# Altium integrated library texas.IntLib: 210 symbols (part 1 of 3)
Pins are listed as number, name and electrical type; pins without a type are passive.

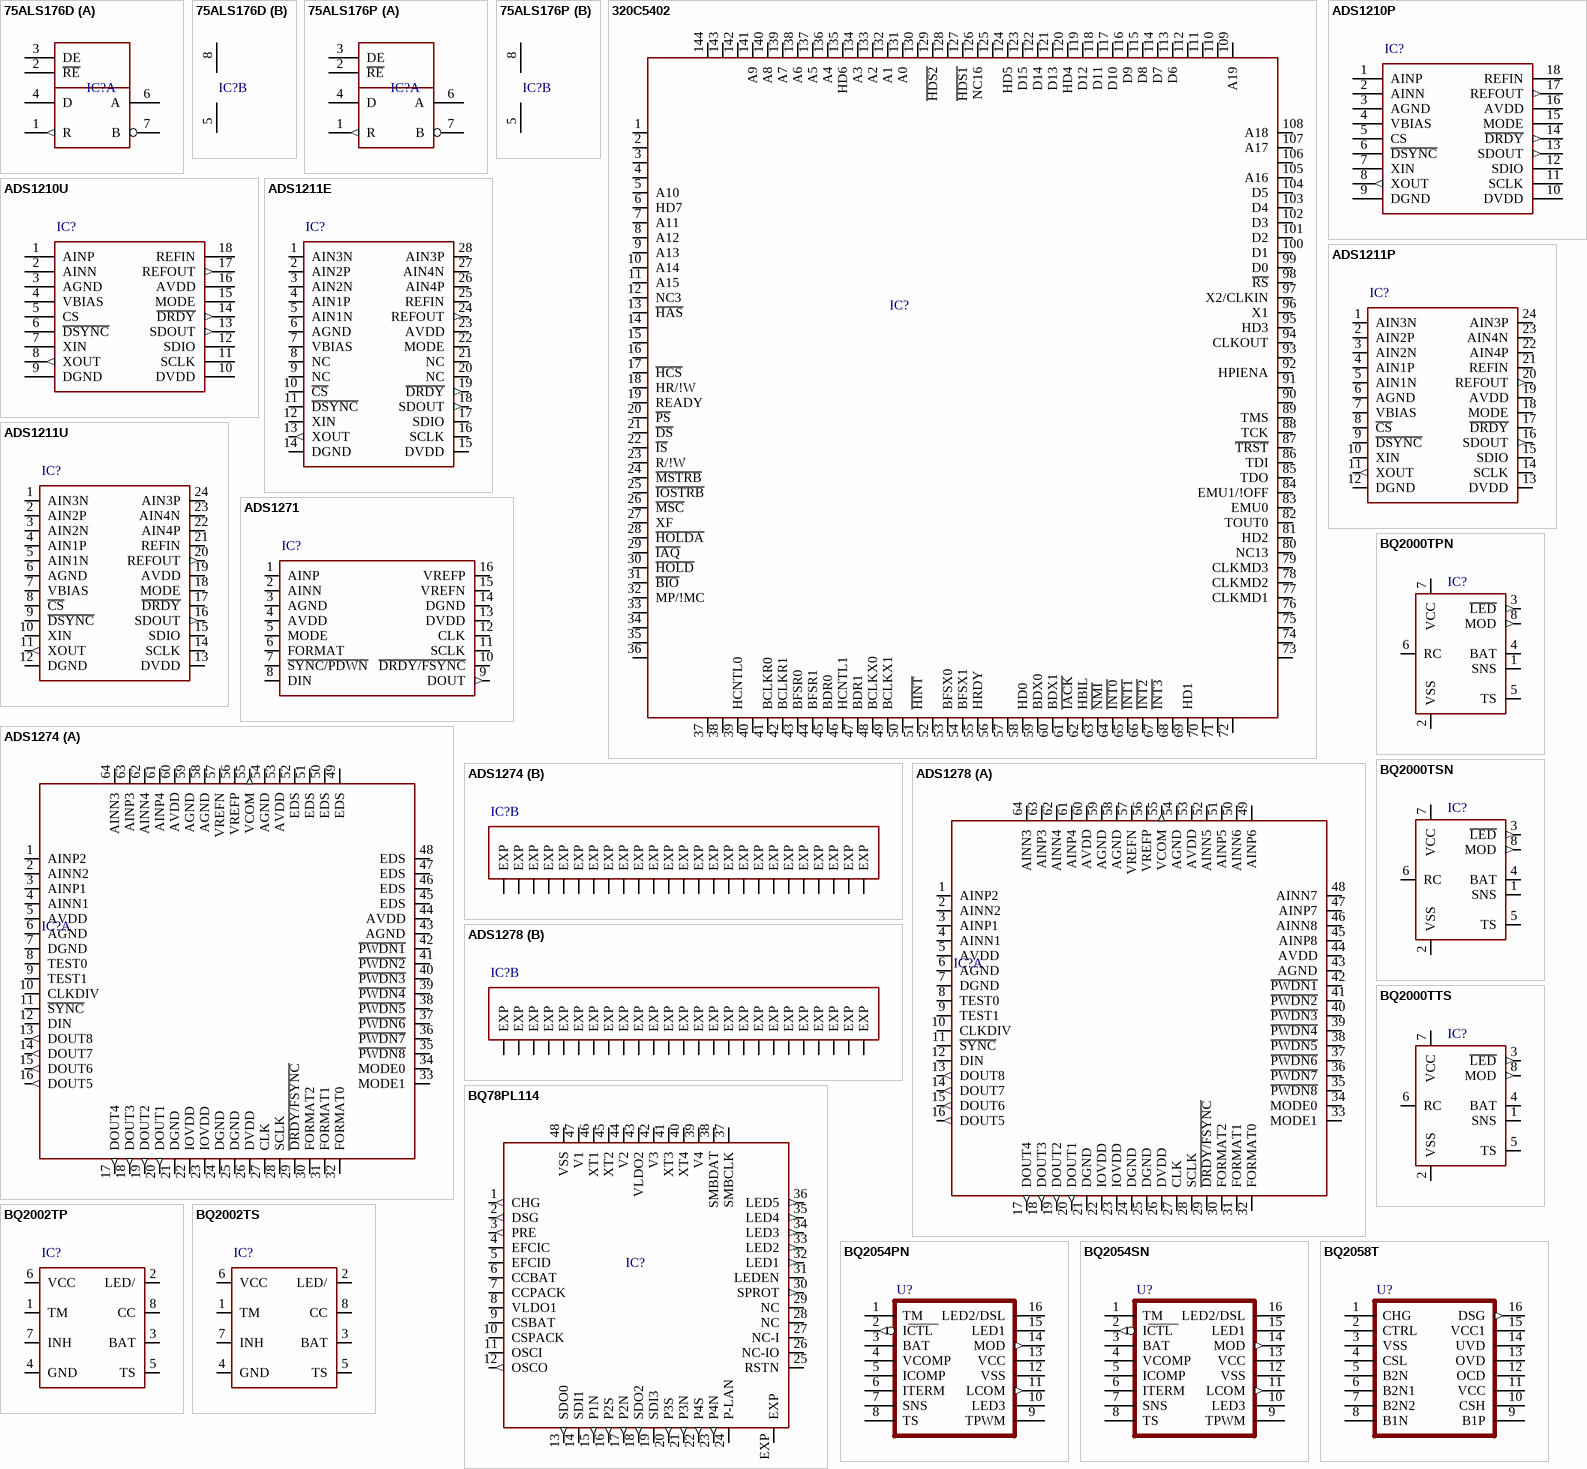
[diagram p0: symbols 75ALS176D to BQ2058T]

## 75ALS176D
designator IC?, comment <b>DIFFERENTIAL BUS TRANSCEIVERS</b><p> / TIA/EIA-422-B,  TIA/EIA-422-B + TIA/EIA-422-B TIA/EIA-422-B<br> / Operate at Data Rates up to 35 Mbaud<br> / Source: http://focus.ti.com/lit/ds/symlink/sn65als176.pdf  (value not drawn)
Vendor: TEXAS INSTRUMENTS
footprint SO-08
part A pins: 1 R (out), 2 ~{RE}, 3 DE, 4 D, 6 A, 7 B
part B pins: 5 GND (power), 8 VCC (power)

## 75ALS176P
designator IC?, comment <b>DIFFERENTIAL BUS TRANSCEIVERS</b><p> / TIA/EIA-422-B,  TIA/EIA-422-B + TIA/EIA-422-B TIA/EIA-422-B<br> / Operate at Data Rates up to 35 Mbaud<br> / Source: http://focus.ti.com/lit/ds/symlink/sn65als176.pdf  (value not drawn)
Part Number: SN75ALS176P; Vendor: TEXAS INSTRUMENTS
footprint DIL08
part A pins: 1 R (out), 2 ~{RE}, 3 DE, 4 D, 6 A, 7 B
part B pins: 5 GND (power), 8 VCC (power)

## 320C5402
designator IC?, comment <b>DSP DEVICE</b>  (value not drawn)
Vendor: TEXAS INSTRUMENTS
footprint PQFP144
pins: 1 NC1, 2 NC2, 3 VSS (power), 4 DVDD (power), 5 A10, 6 HD7, 7 A11, 8 A12, 9 A13, 10 A14, 11 A15, 12 NC3, 13 ~{HAS}, 14 VSS (power), 15 NC4, 16 CVDD (power), 17 ~{HCS}, 18 HR/!W, 19 READY, 20 ~{PS}, 21 ~{DS}, 22 ~{IS}, 23 R/!W, 24 ~{MSTRB}, 25 ~{IOSTRB}, 26 ~{MSC}, 27 XF, 28 ~{HOLDA}, 29 ~{IAQ}, 30 ~{HOLD}, 31 ~{BIO}, 32 MP/!MC, 33 DVDD (power), 34 VSS (power), 35 NC5, 36 NC6, 37 NC7, 38 NC8, 39 HCNTL0, 40 VSS (power), 41 BCLKR0, 42 BCLKR1, 43 BFSR0, 44 BFSR1, 45 BDR0, 46 HCNTL1, 47 BDR1, 48 BCLKX0, 49 BCLKX1, 50 VSS (power), 51 ~{HINT}, 52 CVDD (power), 53 BFSX0, 54 BFSX1, 55 HRDY, 56 DVDD (power), 57 VSS (power), 58 HD0, 59 BDX0, 60 BDX1, 61 ~{IACK}, 62 HBIL, 63 ~{NMI}, 64 ~{INT0}, 65 ~{INT1}, 66 ~{INT2}, 67 ~{INT3}, 68 CVDD (power), 69 HD1, 70 VSS (power), 71 NC9, 72 NC10, 73 NC11, 74 NC12, 75 DVDD (power), 76 VSS (power), 77 CLKMD1, 78 CLKMD2, 79 CLKMD3, 80 NC13, 81 HD2, 82 TOUT0, 83 EMU0, 84 EMU1/!OFF, 85 TDO, 86 TDI, 87 ~{TRST}, 88 TCK, 89 TMS, 90 NC14, 91 CVDD (power), 92 HPIENA, 93 VSS (power), 94 CLKOUT, 95 HD3, 96 X1, 97 X2/CLKIN, 98 ~{RS}, 99 D0, 100 D1, 101 D2, 102 D3, 103 D4, 104 D5, 105 A16, 106 VSS (power), 107 A17, 108 A18, 109 A19, 110 NC15, 111 VSS (power), 112 DVDD (power), 113 D6, 114 D7, 115 D8, 116 D9, 117 D10, 118 D11, 119 D12, 120 HD4, 121 D13, 122 D14, 123 D15, 124 HD5, 125 CVDD (power), 126 NC16, 127 ~{HDS1}, 128 VSS (power), 129 ~{HDS2}, 130 DVDD (power), 131 A0, 132 A1, 133 A2, 134 A3, 135 HD6, 136 A4, 137 A5, 138 A6, 139 A7, 140 A8, 141 A9, 142 CVDD (power), 143 NC17, 144 NC18

## ADS1210P
designator IC?, comment <b>24-Bit ANALOG-TO-DIGITAL CONVERTER</b><p> / Source: http://focus.ti.com/lit/ds/symlink/ads1210.pdf  (value not drawn)
Part Number: ADS1210P; Vendor: TEXAS INSTRUMENTS
footprint DIL18
pins: 1 AINP, 2 AINN, 3 AGND (power), 4 VBIAS, 5 CS, 6 ~{DSYNC}, 7 XIN, 8 XOUT (out), 9 DGND (power), 10 DVDD (power), 11 SCLK, 12 SDIO, 13 SDOUT (out), 14 ~{DRDY} (out), 15 MODE, 16 AVDD (power), 17 REFOUT (out), 18 REFIN

## ADS1210U
designator IC?, comment <b>24-Bit ANALOG-TO-DIGITAL CONVERTER</b><p> / Source: http://focus.ti.com/lit/ds/symlink/ads1210.pdf  (value not drawn)
Part Number: ADS1210U; Vendor: TEXAS INSTRUMENTS
footprint SO-18DW
pins: 1 AINP, 2 AINN, 3 AGND (power), 4 VBIAS, 5 CS, 6 ~{DSYNC}, 7 XIN, 8 XOUT (out), 9 DGND (power), 10 DVDD (power), 11 SCLK, 12 SDIO, 13 SDOUT (out), 14 ~{DRDY} (out), 15 MODE, 16 AVDD (power), 17 REFOUT (out), 18 REFIN

## ADS1211E
designator IC?, comment <b>24-Bit ANALOG-TO-DIGITAL CONVERTER</b><p> / Source: http://focus.ti.com/lit/ds/symlink/ads1210.pdf  (value not drawn)
Part Number: ADS1211E; Vendor: TEXAS INSTRUMENTS
footprint DB_R-PDSO-G28
pins: 1 AIN3N, 2 AIN2P, 3 AIN2N, 4 AIN1P, 5 AIN1N, 6 AGND (power), 7 VBIAS, 8 NC, 9 NC, 10 ~{CS}, 11 ~{DSYNC}, 12 XIN, 13 XOUT (out), 14 DGND (power), 15 DVDD (power), 16 SCLK, 17 SDIO, 18 SDOUT (out), 19 ~{DRDY} (out), 20 NC, 21 NC, 22 MODE, 23 AVDD (power), 24 REFOUT (out), 25 REFIN, 26 AIN4P, 27 AIN4N, 28 AIN3P

## ADS1211P
designator IC?, comment <b>24-Bit ANALOG-TO-DIGITAL CONVERTER</b><p> / Source: http://focus.ti.com/lit/ds/symlink/ads1210.pdf  (value not drawn)
Part Number: ADS1211P; Vendor: TEXAS INSTRUMENTS
footprint PDIP-T24
pins: 1 AIN3N, 2 AIN2P, 3 AIN2N, 4 AIN1P, 5 AIN1N, 6 AGND (power), 7 VBIAS, 8 ~{CS}, 9 ~{DSYNC}, 10 XIN, 11 XOUT (out), 12 DGND (power), 13 DVDD (power), 14 SCLK, 15 SDIO, 16 SDOUT (out), 17 ~{DRDY}, 18 MODE, 19 AVDD (power), 20 REFOUT (out), 21 REFIN, 22 AIN4P, 23 AIN4N, 24 AIN3P

## ADS1211U
designator IC?, comment <b>24-Bit ANALOG-TO-DIGITAL CONVERTER</b><p> / Source: http://focus.ti.com/lit/ds/symlink/ads1210.pdf  (value not drawn)
Part Number: ADS1211U; Vendor: TEXAS INSTRUMENTS
footprint PW_R-PDSO-G24
pins: 1 AIN3N, 2 AIN2P, 3 AIN2N, 4 AIN1P, 5 AIN1N, 6 AGND (power), 7 VBIAS, 8 ~{CS}, 9 ~{DSYNC}, 10 XIN, 11 XOUT (out), 12 DGND (power), 13 DVDD (power), 14 SCLK, 15 SDIO, 16 SDOUT (out), 17 ~{DRDY}, 18 MODE, 19 AVDD (power), 20 REFOUT (out), 21 REFIN, 22 AIN4P, 23 AIN4N, 24 AIN3P

## ADS1271
designator IC?, comment <b>24-Bit Wide Bandwidth Analaog-to-Digial Converter</b><p> / Source: http://focus.ti.com/lit/ds/symlink/ads1271.pdf  (value not drawn)
Part Number: ADS1271IPWR; Vendor: TEXAS INSTRUMENTS
footprint TSSOP16
pins: 1 AINP, 2 AINN, 3 AGND (power), 4 AVDD (power), 5 MODE, 6 FORMAT, 7 ~{SYNC/PDWN}, 8 DIN, 9 DOUT (out), 10 ~{DRDY/FSYNC}, 11 SCLK, 12 CLK, 13 DVDD, 14 DGND, 15 VREFN, 16 VREFP

## ADS1274
designator IC?, comment <b>Quad/Octal, Simultaneous Sampling, 24-Bit Analog-to-Digital Converters</b> ADS1274 / ADS1278 <p> / Source: http://focus.ti.com/lit/ds/symlink/ads1274.pdf  (value not drawn)
Part Number: ADS1274IPAPT; Vendor: TEXAS INSTRUMENTS
footprint HTQFP-64-PAP
part A pins: 1 AINP2, 2 AINN2, 3 AINP1, 4 AINN1, 5 AVDD (power), 6 AGND (power), 7 DGND (power), 8 TEST0, 9 TEST1, 10 CLKDIV, 11 ~{SYNC}, 12 DIN, 13 DOUT8 (out), 14 DOUT7 (out), 15 DOUT6 (out), 16 DOUT5 (out), 17 DOUT4 (out), 18 DOUT3 (out), 19 DOUT2 (out), 20 DOUT1 (out), 21 DGND (power), 22 IOVDD (power), 23 IOVDD (power), 24 DGND (power), 25 DGND (power), 26 DVDD (power), 27 CLK, 28 SCLK, 29 ~{DRDY/FSYNC}, 30 FORMAT2, 31 FORMAT1, 32 FORMAT0, 33 MODE1, 34 MODE0, 35 ~{PWDN8}, 36 ~{PWDN7}, 37 ~{PWDN6}, 38 ~{PWDN5}, 39 ~{PWDN4}, 40 ~{PWDN3}, 41 ~{PWDN2}, 42 ~{PWDN1}, 43 AGND (power), 44 AVDD (power), 45 EDS, 46 EDS, 47 EDS, 48 EDS, 49 EDS, 50 EDS, 51 EDS, 52 EDS, 53 AVDD (power), 54 AGND (power), 55 VCOM (out), 56 VREFP, 57 VREFN, 58 AGND (power), 59 AGND (power), 60 AVDD (power), 61 AINP4, 62 AINN4, 63 AINP3, 64 AINN3
part B pins: EXP1 EXP, EXP2 EXP, EXP3 EXP, EXP4 EXP, EXP5 EXP, EXP6 EXP, EXP7 EXP, EXP8 EXP, EXP9 EXP, EXP10 EXP, EXP11 EXP, EXP12 EXP, EXP13 EXP, EXP14 EXP, EXP15 EXP, EXP16 EXP, EXP17 EXP, EXP18 EXP, EXP19 EXP, EXP20 EXP, EXP21 EXP, EXP22 EXP, EXP23 EXP, EXP24 EXP, EXP25 EXP

## ADS1278
designator IC?, comment <b>Quad/Octal, Simultaneous Sampling, 24-Bit Analog-to-Digital Converters</b> ADS1274 / ADS1278 <p> / Auto generated by <i>make-symbol-device-package-bsdl.ulp Rev. 29</i><br> / Source: http://focus.ti.com/lit/ds/symlink/ads1274.pdf  (value not drawn)
Part Number: ADS1278IPAPT; Vendor: TEXAS INSTRUMENTS
footprint HTQFP-64-PAP
part A pins: 1 AINP2, 2 AINN2, 3 AINP1, 4 AINN1, 5 AVDD (power), 6 AGND (power), 7 DGND (power), 8 TEST0, 9 TEST1, 10 CLKDIV, 11 ~{SYNC}, 12 DIN, 13 DOUT8 (out), 14 DOUT7 (out), 15 DOUT6 (out), 16 DOUT5 (out), 17 DOUT4 (out), 18 DOUT3 (out), 19 DOUT2 (out), 20 DOUT1 (out), 21 DGND (power), 22 IOVDD (power), 23 IOVDD (power), 24 DGND (power), 25 DGND (power), 26 DVDD (power), 27 CLK, 28 SCLK, 29 ~{DRDY/FSYNC}, 30 FORMAT2, 31 FORMAT1, 32 FORMAT0, 33 MODE1, 34 MODE0, 35 ~{PWDN8}, 36 ~{PWDN7}, 37 ~{PWDN6}, 38 ~{PWDN5}, 39 ~{PWDN4}, 40 ~{PWDN3}, 41 ~{PWDN2}, 42 ~{PWDN1}, 43 AGND (power), 44 AVDD (power), 45 AINP8, 46 AINN8, 47 AINP7, 48 AINN7, 49 AINP6, 50 AINN6, 51 AINP5, 52 AINN5, 53 AVDD (power), 54 AGND (power), 55 VCOM (out), 56 VREFP, 57 VREFN, 58 AGND (power), 59 AGND (power), 60 AVDD (power), 61 AINP4, 62 AINN4, 63 AINP3, 64 AINN3
part B pins: EXP1 EXP, EXP2 EXP, EXP3 EXP, EXP4 EXP, EXP5 EXP, EXP6 EXP, EXP7 EXP, EXP8 EXP, EXP9 EXP, EXP10 EXP, EXP11 EXP, EXP12 EXP, EXP13 EXP, EXP14 EXP, EXP15 EXP, EXP16 EXP, EXP17 EXP, EXP18 EXP, EXP19 EXP, EXP20 EXP, EXP21 EXP, EXP22 EXP, EXP23 EXP, EXP24 EXP, EXP25 EXP

## BQ78PL114
designator IC?, comment <b>PowerLAN (TM) Master Gateway Battery Management Controller With PowerPump(TM) Cell Balancing Technology</b><p> / Auto generated by <i>make-symbol-device-package-bsdl.ulp Rev. 35</i><br> / Source: <a href="http://focus.ti.com/lit/ds/symlink/bq78pl114.pdf"> Datasheet </a>  (value not drawn)
Part Number: BQ78PL114RGZR; Vendor: TEXAS INSTRUMENTS
footprint P-QFP48-7X7MM
pins: 1 CHG (out), 2 DSG (out), 3 PRE (out), 4 EFCIC, 5 EFCID, 6 CCBAT, 7 CCPACK, 8 VLDO1 (power), 9 CSBAT, 10 CSPACK, 11 OSCI, 12 OSCO (out), 13 SDO0 (out), 14 SDI1, 15 P1N (out), 16 P2S (out), 17 P2N (out), 18 SDO2 (out), 19 SDI3, 20 P3S (out), 21 P3N (out), 22 P4S (out), 23 P4N (out), 24 P-LAN, 25 RSTN, 26 NC-IO, 27 NC-I, 28 NC, 29 NC, 30 SPROT (out), 31 LEDEN, 32 LED1 (out), 33 LED2 (out), 34 LED3 (out), 35 LED4 (out), 36 LED5 (out), 37 SMBCLK, 38 SMBDAT, 39 V4, 40 XT4, 41 XT3, 42 V3, 43 VLDO2 (power), 44 V2, 45 XT2, 46 XT1, 47 V1, 48 VSS, EXP

## BQ2000TPN
designator IC?, comment <b>CHARGE MANAGEMENT IC</b>  (value not drawn)
Part Number: BQ2000TPN-B5; Vendor: TEXAS INSTRUMENTS
footprint DIL08
pins: 1 SNS, 2 VSS (power), 3 ~{LED} (out), 4 BAT, 5 TS, 6 RC, 7 VCC, 8 MOD (out)

## BQ2000TSN
designator IC?, comment <b>CHARGE MANAGEMENT IC</b>  (value not drawn)
Part Number: BQ2000TSN-B5; Vendor: TEXAS INSTRUMENTS
footprint SO-08
pins: 1 SNS, 2 VSS (power), 3 ~{LED} (out), 4 BAT, 5 TS, 6 RC, 7 VCC, 8 MOD (out)

## BQ2000TTS
designator IC?, comment <b>CHARGE MANAGEMENT IC</b>  (value not drawn)
Vendor: TEXAS INSTRUMENTS
footprint TSSOP8
pins: 1 SNS, 2 VSS (power), 3 ~{LED} (out), 4 BAT, 5 TS, 6 RC, 7 VCC, 8 MOD (out)

## BQ2002TP
designator IC?, comment <b>CHARGE MANAGEMENT IC</b>  (value not drawn)
Part Number: BQ2002TPN; Vendor: TEXAS INSTRUMENTS
footprint DIL08
pins: 1 TM, 2 LED/ (oc), 3 BAT, 4 GND (power), 5 TS, 6 VCC (power), 7 INH, 8 CC (oc)

## BQ2002TS
designator IC?, comment <b>CHARGE MANAGEMENT IC</b>  (value not drawn)
Part Number: BQ2002TSN; Vendor: TEXAS INSTRUMENTS
footprint SO-08
pins: 1 TM, 2 LED/ (oc), 3 BAT, 4 GND (power), 5 TS, 6 VCC (power), 7 INH, 8 CC (oc)

## BQ2054PN
designator U?, comment <b>CHARGE MANAGEMENT IC</b>  (value not drawn)
Part Number: BQ2054PN; Vendor: TEXAS INSTRUMENTS
footprint DIL16
pins: 1 TM, 2 ICTL (out), 3 BAT, 4 VCOMP, 5 ICOMP, 6 ITERM, 7 SNS, 8 TS, 9 TPWM, 10 LED3 (hiz), 11 LCOM (out), 12 VSS (power), 13 VCC (power), 14 MOD (out), 15 LED1 (hiz), 16 LED2/DSL (hiz)

## BQ2054SN
designator U?, comment <b>CHARGE MANAGEMENT IC</b>  (value not drawn)
Part Number: BQ2054SN; Vendor: TEXAS INSTRUMENTS
footprint SO-16
pins: 1 TM, 2 ICTL (out), 3 BAT, 4 VCOMP, 5 ICOMP, 6 ITERM, 7 SNS, 8 TS, 9 TPWM, 10 LED3 (hiz), 11 LCOM (out), 12 VSS (power), 13 VCC (power), 14 MOD (out), 15 LED1 (hiz), 16 LED2/DSL (hiz)

## BQ2058T
designator U?, comment <b>CHARGE MANAGEMENT IC</b>  (value not drawn)
Vendor: TEXAS INSTRUMENTS
footprint SO-16
pins: 1 CHG (hiz), 2 CTRL, 3 VSS (power), 4 CSL, 5 B2N, 6 B2N1, 7 B2N2, 8 B1N, 9 B1P, 10 CSH, 11 VCC (power), 12 OCD, 13 OVD, 14 UVD, 15 VCC1 (power), 16 DSG (out)

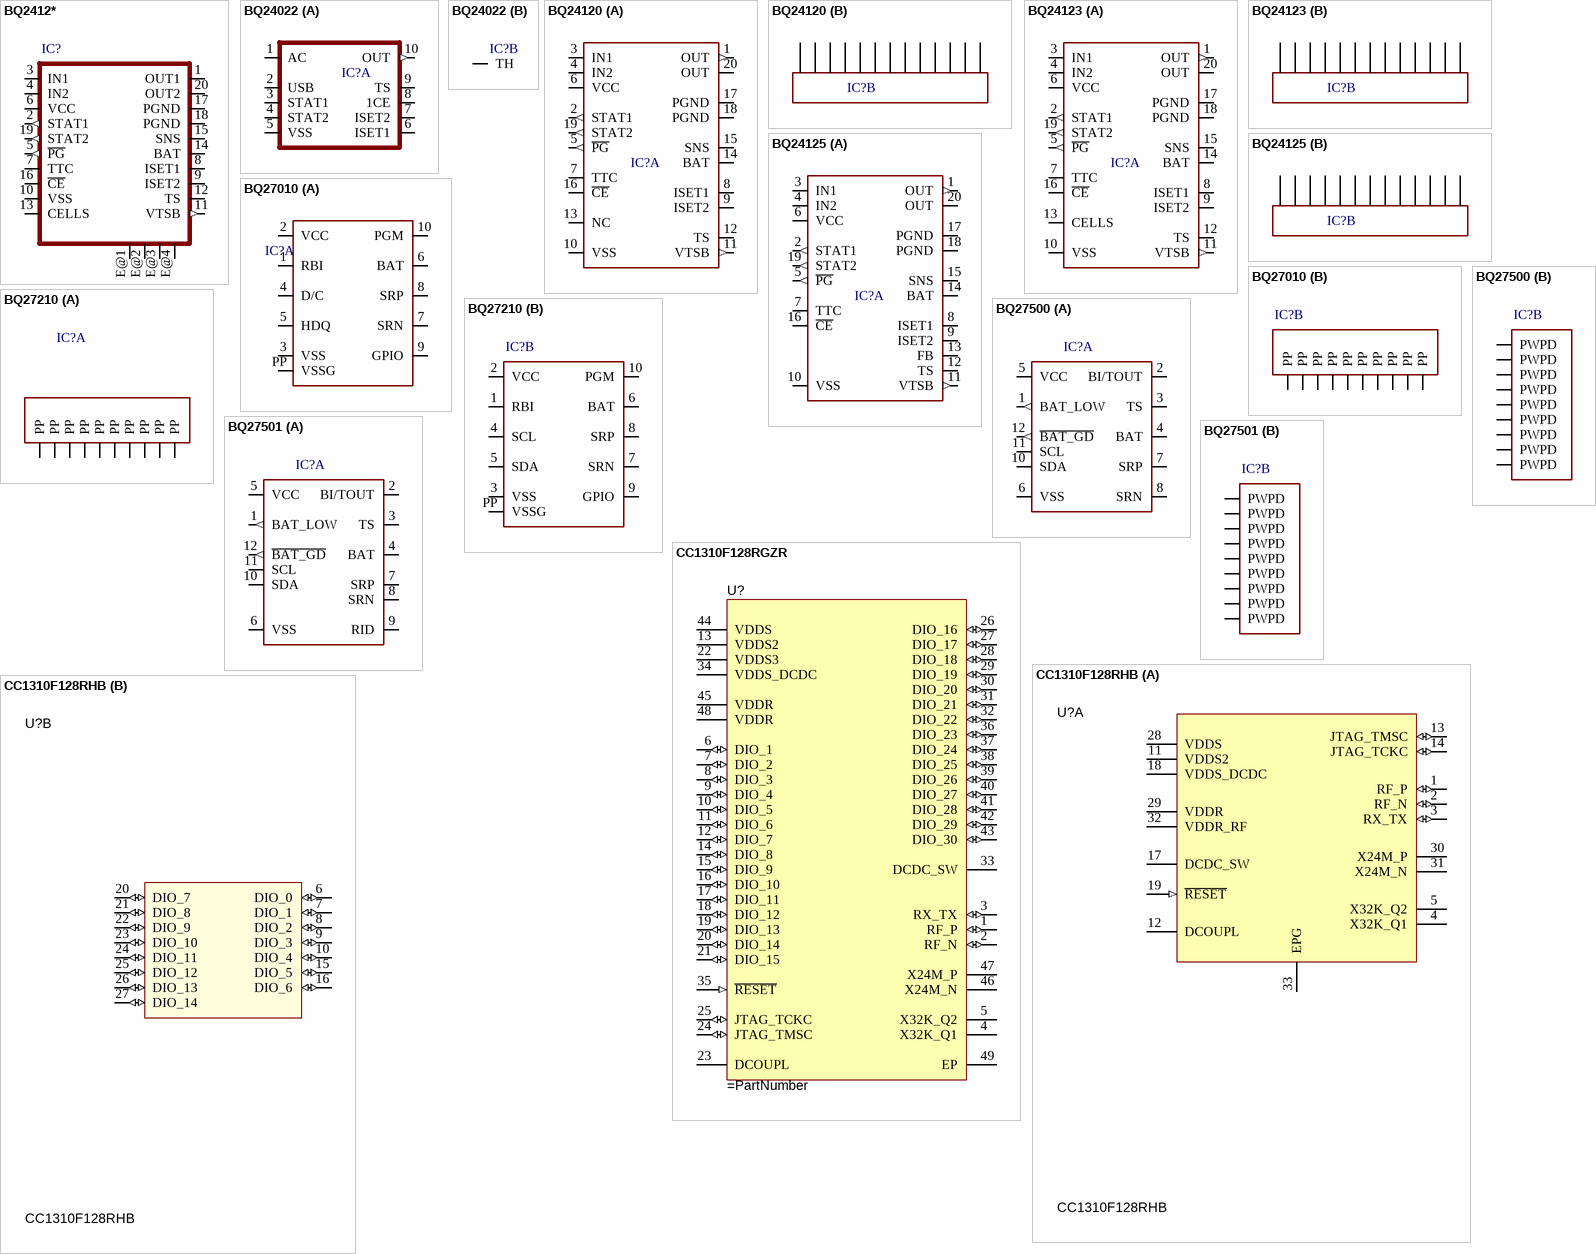
[diagram p1: symbols BQ2412* to CC1310F128RHB]

## BQ2412*
designator IC?, comment <b>SINGLE-CHIP SWITCHMODE, LI-ION AND LI-POLYMER CHARGE-MANAGEMENT</b><p> / WITH ENHANCED EMI PERFORMANCE(bqSWITCHER TM)</b><p> / Source: http://focus.ti.com/lit/ds/symlink/bq24120.pdf  (value not drawn)
Part Number: BQ24123RHLT; Vendor: TEXAS INSTRUMENTS
footprint R-PQFP-N20
pins: 1 OUT1, 2 STAT1 (out), 3 IN1, 4 IN2, 5 ~{PG} (out), 6 VCC, 7 TTC, 8 ISET1, 9 ISET2, 10 VSS, 11 VTSB (out), 12 TS, 13 CELLS, 14 BAT, 15 SNS, 16 ~{CE}, 17 PGND, 18 PGND, 19 STAT2 (out), 20 OUT2, E@1 EXP, E@2 EXP, E@3 EXP, E@4 EXP

## BQ24022
designator IC?, comment <b>SINGLE-CHIP, LI-ION AND LI-POL CHARGER IC</b> WITH AUTONOMOUS USB-PORT AND AC-ADAPTER SUPPLY MANAGEMENT (bqTINY™-II)<p> / Source: bq24022.pdf (www.ti.com)  (value not drawn)
Vendor: TEXAS INSTRUMENTS
footprint DRC-S-PVSON-N10
part A pins: 1 AC, 2 USB, 3 STAT1, 4 STAT2, 5 VSS (power), 6 ISET1, 7 ISET2, 8 1CE, 9 TS, 10 OUT (out)
part B pins: TH

## BQ24120
designator IC?, comment <b>SINGLE-CHIP SWITCHMODE, LI-ION AND LI-POLYMER CHARGE-MANAGEMENT IC</b><p> / WITH ENHANCED EMI PERFORMANCE(bqSWITCHER)<br> / Source: www.ti.com .. TI-bq24125.pdf  (value not drawn)
Part Number: BQ24120RHLTG4; Vendor: TEXAS INSTRUMENTS
footprint QFN20_3,5X4,5
part A pins: 1 OUT (out), 2 STAT1 (out), 3 IN1, 4 IN2, 5 ~{PG} (out), 6 VCC, 7 TTC, 8 ISET1, 9 ISET2, 10 VSS (power), 11 VTSB (out), 12 TS, 13 NC, 14 BAT, 15 SNS, 16 ~{CE}, 17 PGND, 18 PGND, 19 STAT2 (out), 20 OUT
part B pins: EXP 7, EXP@1 1, EXP@2 2, EXP@3 3, EXP@4 4, EXP@5 5, EXP@6 6, EXP@7 8, EXP@8 9, EXP@9 10, EXP@10 11, EXP@11 12, EXP@12 13

## BQ24123
designator IC?, comment <b>SINGLE-CHIP SWITCHMODE, LI-ION AND LI-POLYMER CHARGE-MANAGEMENT IC</b><p> / WITH ENHANCED EMI PERFORMANCE(bqSWITCHER)<br> / Source: www.ti.com .. TI-bq24125.pdf  (value not drawn)
Part Number: BQ24123RHLT; Vendor: TEXAS INSTRUMENTS
footprint QFN20_3,5X4,5
part A pins: 1 OUT (out), 2 STAT1 (out), 3 IN1, 4 IN2, 5 ~{PG} (out), 6 VCC, 7 TTC, 8 ISET1, 9 ISET2, 10 VSS (power), 11 VTSB (out), 12 TS, 13 CELLS, 14 BAT, 15 SNS, 16 ~{CE}, 17 PGND, 18 PGND, 19 STAT2 (out), 20 OUT
part B pins: EXP 7, EXP@1 1, EXP@2 2, EXP@3 3, EXP@4 4, EXP@5 5, EXP@6 6, EXP@7 8, EXP@8 9, EXP@9 10, EXP@10 11, EXP@11 12, EXP@12 13

## BQ24125
designator IC?, comment <b>SINGLE-CHIP SWITCHMODE, LI-ION AND LI-POLYMER CHARGE-MANAGEMENT IC</b><p> / WITH ENHANCED EMI PERFORMANCE(bqSWITCHER)<br> / Source: www.ti.com .. TI-bq24125.pdf  (value not drawn)
Part Number: BQ24125RHLR; Vendor: TEXAS INSTRUMENTS
footprint QFN20_3,5X4,5
part A pins: 1 OUT (out), 2 STAT1 (out), 3 IN1, 4 IN2, 5 ~{PG} (out), 6 VCC, 7 TTC, 8 ISET1, 9 ISET2, 10 VSS (power), 11 VTSB (out), 12 TS, 13 FB, 14 BAT, 15 SNS, 16 ~{CE}, 17 PGND, 18 PGND, 19 STAT2 (out), 20 OUT
part B pins: EXP 7, EXP@1 1, EXP@2 2, EXP@3 3, EXP@4 4, EXP@5 5, EXP@6 6, EXP@7 8, EXP@8 9, EXP@9 10, EXP@10 11, EXP@11 12, EXP@12 13

## BQ27010
designator IC?, comment <b>Li-Ion AND Li-Pol BATTERY GAS GAUGE IC FOR PORTABLE APPLICATIONS</b><p> / HDQ Communication (bqJUNIOR)<br> / Source: www.ti.com .. bq27010.pdf  (value not drawn)
Part Number: BQ27010DRKR; Vendor: TEXAS INSTRUMENTS
footprint DRK_S-PDSO-N10
part A pins: 1 RBI, 2 VCC (power), 3 VSS (power), 4 D/C, 5 HDQ, 6 BAT, 7 SRN, 8 SRP, 9 GPIO, 10 PGM, PP VSSG (power)
part B pins: PP@1 PP (power), PP@2 PP (power), PP@3 PP (power), PP@4 PP (power), PP@5 PP (power), PP@6 PP (power), PP@7 PP (power), PP@8 PP (power), PP@9 PP (power), PP@10 PP (power)

## BQ27210
designator IC?, comment <b>Li-Ion AND Li-Pol BATTERY GAS GAUGE IC FOR PORTABLE APPLICATIONS</b><p> / I2C  Communication (bqJUNIOR)<br> / Source: www.ti.com .. bq27010.pdf  (value not drawn)
Part Number: BQ27210DRKR; Vendor: TEXAS INSTRUMENTS
footprint DRK_S-PDSO-N10
part A pins: PP@1 PP (power), PP@2 PP (power), PP@3 PP (power), PP@4 PP (power), PP@5 PP (power), PP@6 PP (power), PP@7 PP (power), PP@8 PP (power), PP@9 PP (power), PP@10 PP (power)
part B pins: 1 RBI, 2 VCC, 3 VSS, 4 SCL, 5 SDA, 6 BAT, 7 SRN, 8 SRP, 9 GPIO, 10 PGM, PP VSSG

## BQ27500
designator IC?, comment <b>System-Side Impedance Track? Fuel Gauge</b><p> / Source: bq27500-v100.pdf  (value not drawn)
Part Number: BQ27500DRZR; Vendor: TEXAS INSTRUMENTS
footprint DRZ
part A pins: 1 BAT_LOW (out), 2 BI/TOUT, 3 TS, 4 BAT, 5 VCC (power), 6 VSS (power), 7 SRP, 8 SRN, 9 NC, 10 SDA, 11 SCL, 12 ~{BAT_GD} (out)
part B pins: EXP@1 PWPD (power), EXP@2 PWPD (power), EXP@3 PWPD (power), EXP@4 PWPD (power), EXP@5 PWPD (power), EXP@6 PWPD (power), EXP@7 PWPD (power), EXP@8 PWPD (power), EXP@9 PWPD (power)

## BQ27501
designator IC?, comment <b>System-Side Impedance Track? Fuel Gauge</b><p> / Source: bq27500-v100.pdf  (value not drawn)
Part Number: BQ27501DRZT; Vendor: TEXAS INSTRUMENTS
footprint DRZ
part A pins: 1 BAT_LOW (out), 2 BI/TOUT, 3 TS, 4 BAT, 5 VCC (power), 6 VSS (power), 7 SRP, 8 SRN, 9 RID, 10 SDA, 11 SCL, 12 ~{BAT_GD} (out)
part B pins: EXP@1 PWPD (power), EXP@2 PWPD (power), EXP@3 PWPD (power), EXP@4 PWPD (power), EXP@5 PWPD (power), EXP@6 PWPD (power), EXP@7 PWPD (power), EXP@8 PWPD (power), EXP@9 PWPD (power)

## CC1310F128RGZR
designator U?
Sub-1 GHz and 2.4 GHz Multi-standard RF IC Family, RGZ0048A; Part Number: CC1310F128RGZR; Value: Texas Instruments; Vendor: TEXAS INSTRUMENTS
footprint RGZ0048A
pins: 1 RF_P (io), 2 RF_N (io), 3 RX_TX (io), 4 X32K_Q1, 5 X32K_Q2, 6 DIO_1 (io), 7 DIO_2 (io), 8 DIO_3 (io), 9 DIO_4 (io), 10 DIO_5 (io), 11 DIO_6 (io), 12 DIO_7 (io), 13 VDDS2 (power), 14 DIO_8 (io), 15 DIO_9 (io), 16 DIO_10 (io), 17 DIO_11 (io), 18 DIO_12 (io), 19 DIO_13 (io), 20 DIO_14 (io), 21 DIO_15 (io), 22 VDDS3 (power), 23 DCOUPL (power), 24 JTAG_TMSC (io), 25 JTAG_TCKC (io), 26 DIO_16 (io), 27 DIO_17 (io), 28 DIO_18 (io), 29 DIO_19 (io), 30 DIO_20 (io), 31 DIO_21 (io), 32 DIO_22 (io), 33 DCDC_SW (power), 34 VDDS_DCDC (power), 35 ~{RESET} (in), 36 DIO_23 (io), 37 DIO_24 (io), 38 DIO_25 (io), 39 DIO_26 (io), 40 DIO_27 (io), 41 DIO_28 (io), 42 DIO_29 (io), 43 DIO_30 (io), 44 VDDS (power), 45 VDDR (power), 46 X24M_N, 47 X24M_P, 48 VDDR (power), 49 EP (power)

## CC1310F128RHB
designator U?
Sub-1 GHz and 2.4 GHz Multi-standard RF IC Family, RSM; Value: Texas Instruments; Part Number: CC1310F128RHB; Vendor: TEXAS INSTRUMENTS
footprint VQFN32-5x5 (QFN, 32-Leads, Body 5x5mm, Pitch 0.4mm, Thermal Pad 2.8x2.8mm, IPC Medium Density)
part A pins: 1 RF_P (io), 2 RF_N (io), 3 RX_TX (io), 4 X32K_Q1, 5 X32K_Q2, 11 VDDS2 (power), 12 DCOUPL (power), 13 JTAG_TMSC (io), 14 JTAG_TCKC (io), 17 DCDC_SW (power), 18 VDDS_DCDC (power), 19 ~{RESET} (in), 28 VDDS (power), 29 VDDR (power), 30 X24M_P, 31 X24M_N, 32 VDDR_RF (power), 33 EPG (power)
part B pins: 6 DIO_0 (io), 7 DIO_1 (io), 8 DIO_2 (io), 9 DIO_3 (io), 10 DIO_4 (io), 15 DIO_5 (io), 16 DIO_6 (io), 20 DIO_7 (io), 21 DIO_8 (io), 22 DIO_9 (io), 23 DIO_10 (io), 24 DIO_11 (io), 25 DIO_12 (io), 26 DIO_13 (io), 27 DIO_14 (io)

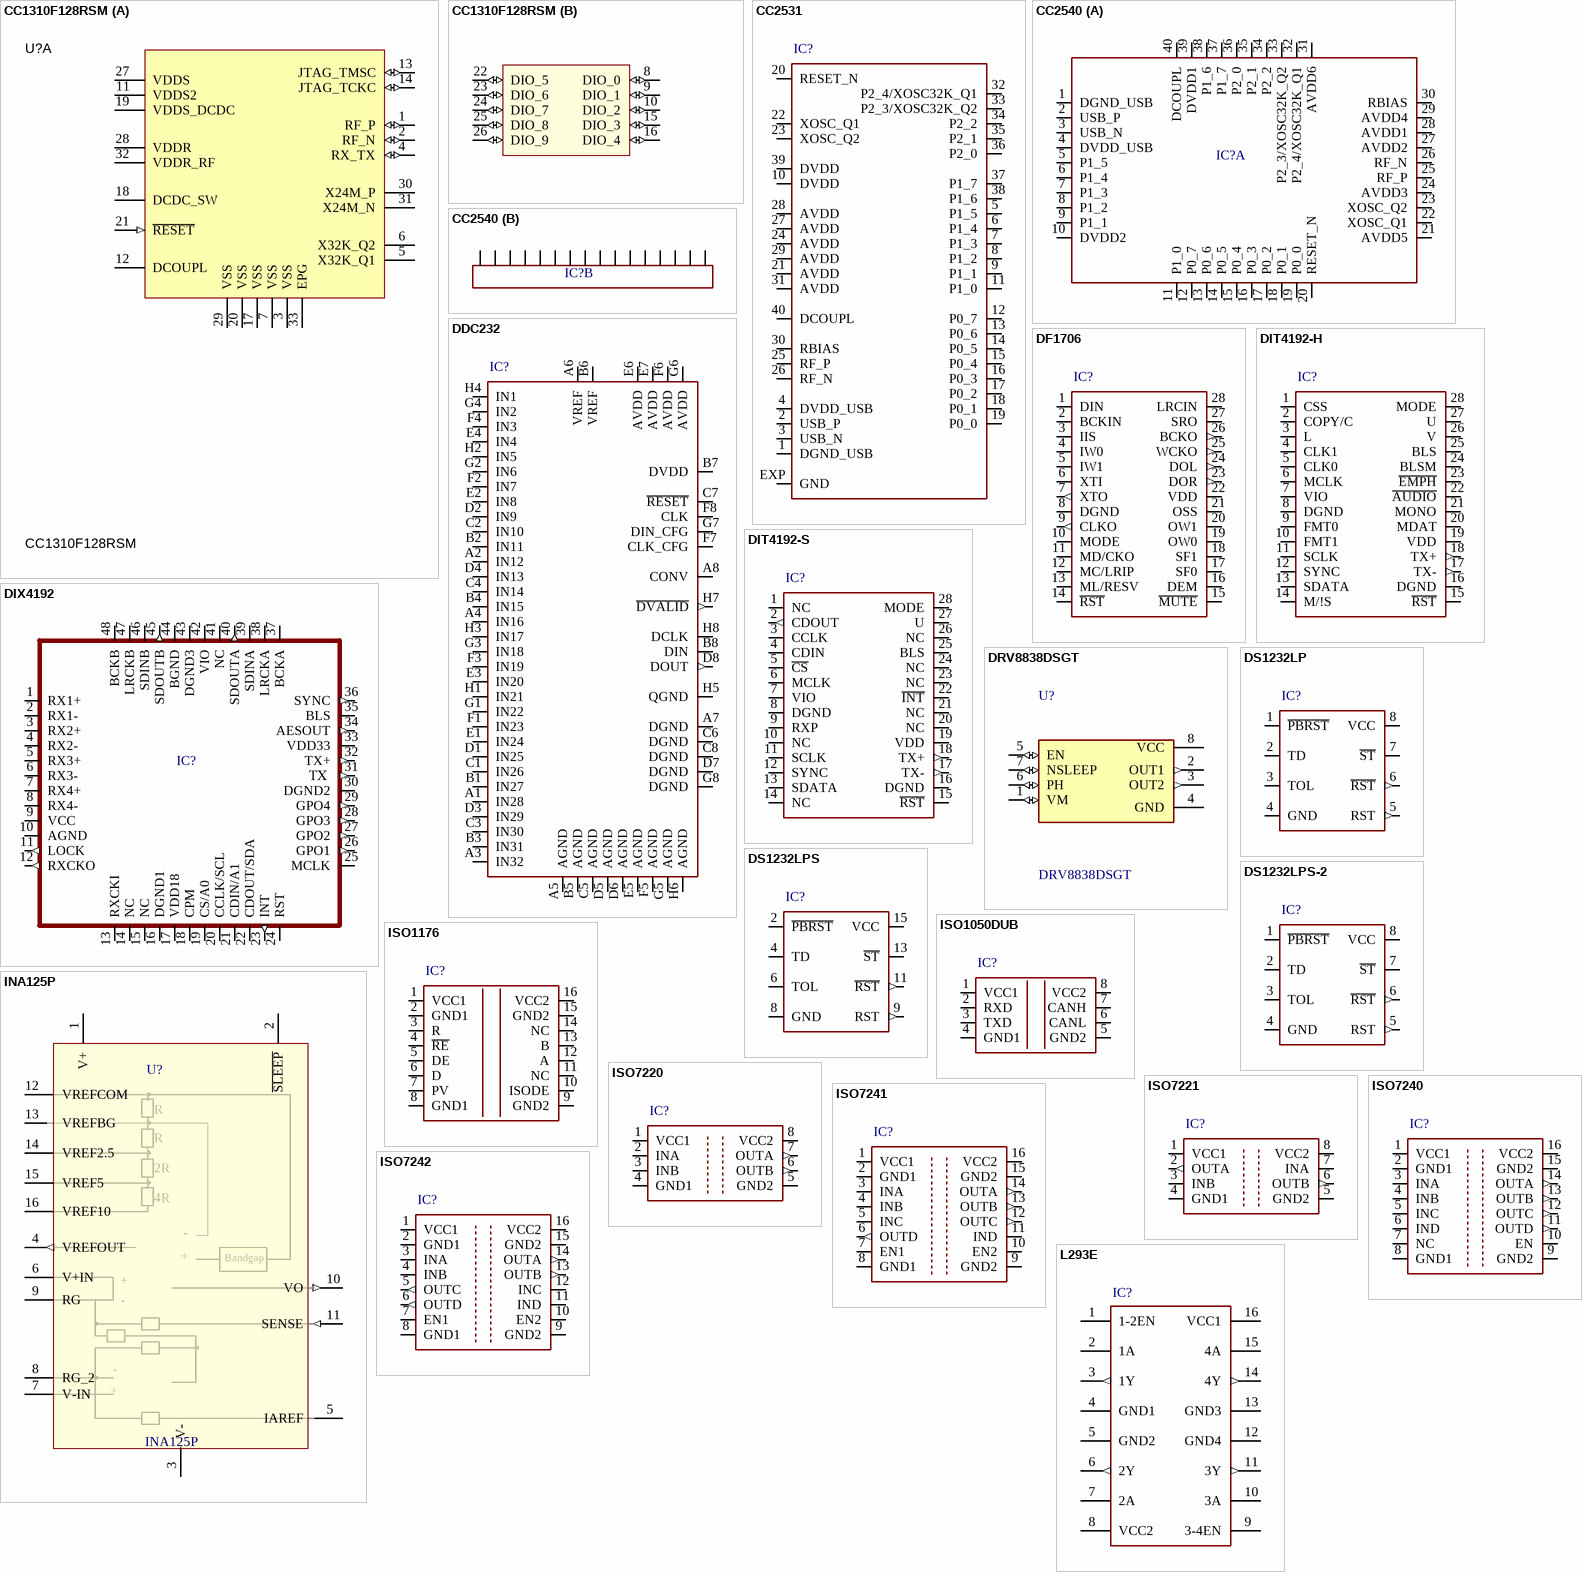
[diagram p2: symbols CC1310F128RSM to L293E]

## CC1310F128RSM
designator U?
Sub-1 GHz and 2.4 GHz Multi-standard RF IC Family, RSM; Value: Texas Instruments; Part Number: CC1310F128RSM; Vendor: TEXAS INSTRUMENTS
footprint VQFN32-4x4 (QFN, 32-Leads, Body 4x4mm, Pitch 0.4mm, Thermal Pad 2.8x2.8mm, IPC Medium Density)
part A pins: 1 RF_P (io), 2 RF_N (io), 3 VSS (power), 4 RX_TX (io), 5 X32K_Q1, 6 X32K_Q2, 7 VSS (power), 11 VDDS2 (power), 12 DCOUPL (power), 13 JTAG_TMSC (io), 14 JTAG_TCKC (io), 17 VSS (power), 18 DCDC_SW (power), 19 VDDS_DCDC (power), 20 VSS (power), 21 ~{RESET} (in), 27 VDDS (power), 28 VDDR (power), 29 VSS (power), 30 X24M_P, 31 X24M_N, 32 VDDR_RF (power), 33 EPG (power)
part B pins: 8 DIO_0 (io), 9 DIO_1 (io), 10 DIO_2 (io), 15 DIO_3 (io), 16 DIO_4 (io), 22 DIO_5 (io), 23 DIO_6 (io), 24 DIO_7 (io), 25 DIO_8 (io), 26 DIO_9 (io)

## CC2531
designator IC?, comment <b>A USB Enabled System-On-Chip Solution for 2.4-GHz IEEE 802.15.4 and ZigBee</b><p> / Source: http://focus.ti.com/lit/ds/symlink/cc2531.pdf  (value not drawn)
Part Number: CC2531F256RHAT; Vendor: TEXAS INSTRUMENTS
footprint RHA_S-PVQFN-N40
pins: 1 DGND_USB (power), 2 USB_P, 3 USB_N, 4 DVDD_USB (power), 5 P1_5, 6 P1_4, 7 P1_3, 8 P1_2, 9 P1_1, 10 DVDD (power), 11 P1_0, 12 P0_7, 13 P0_6, 14 P0_5, 15 P0_4, 16 P0_3, 17 P0_2, 18 P0_1, 19 P0_0, 20 RESET_N, 21 AVDD (power), 22 XOSC_Q1, 23 XOSC_Q2, 24 AVDD (power), 25 RF_P, 26 RF_N, 27 AVDD (power), 28 AVDD (power), 29 AVDD (power), 30 RBIAS, 31 AVDD (power), 32 P2_4/XOSC32K_Q1, 33 P2_3/XOSC32K_Q2, 34 P2_2, 35 P2_1, 36 P2_0, 37 P1_7, 38 P1_6, 39 DVDD (power), 40 DCOUPL (power), EXP GND

## CC2540
designator IC?, comment <b>2.4-GHz Bluetooth® low energy System-on-Chip</b><p> / Auto generated by <i>make-symbol-device-package-bsdl.ulp Rev. 39</i><br> / Source: cc2540.txt  (value not drawn)
Vendor: TEXAS INSTRUMENTS
footprint QFN40-6X6
part A pins: 1 DGND_USB (power), 2 USB_P, 3 USB_N, 4 DVDD_USB (power), 5 P1_5, 6 P1_4, 7 P1_3, 8 P1_2, 9 P1_1, 10 DVDD2 (power), 11 P1_0, 12 P0_7, 13 P0_6, 14 P0_5, 15 P0_4, 16 P0_3, 17 P0_2, 18 P0_1, 19 P0_0, 20 RESET_N, 21 AVDD5 (power), 22 XOSC_Q1, 23 XOSC_Q2, 24 AVDD3 (power), 25 RF_P, 26 RF_N, 27 AVDD2 (power), 28 AVDD1 (power), 29 AVDD4 (power), 30 RBIAS, 31 AVDD6 (power), 32 P2_4/XOSC32K_Q1, 33 P2_3/XOSC32K_Q2, 34 P2_2, 35 P2_1, 36 P2_0, 37 P1_7, 38 P1_6, 39 DVDD1 (power), 40 DCOUPL (power)
part B pins: EXP@1 EXP16, EXP@2 EXP16, EXP@3 EXP16, EXP@4 EXP16, EXP@5 EXP16, EXP@6 EXP16, EXP@7 EXP16, EXP@8 EXP16, EXP@9 EXP16, EXP@10 EXP16, EXP@11 EXP16, EXP@12 EXP16, EXP@13 EXP16, EXP@14 EXP16, EXP@15 EXP16, EXP@16 EXP16

## DDC232
designator IC?, comment <b>32-Channel, Current-Input Analog-to-Digital Converter</b><p> / Source: http://focus.ti.com/lit/ds/symlink/ddc232.pdf  (value not drawn)
Part Number: DDC232CGXGR; Vendor: TEXAS INSTRUMENTS
footprint PBGA-N64
pins: A1 IN28, A2 IN12, A3 IN32, A4 IN16, A5 AGND (power), A6 VREF, A7 DGND (power), A8 CONV, B1 IN27, B2 IN11, B3 IN31, B4 IN15, B5 AGND (power), B6 VREF, B7 DVDD (power), B8 DIN, C1 IN26, C2 IN10, C3 IN30, C4 IN14, C5 AGND (power), C6 DGND (power), C7 ~{RESET}, C8 DGND (power), D1 IN25, D2 IN9, D3 IN29, D4 IN13, D5 AGND (power), D6 AGND (power), D7 DGND (power), D8 DOUT (out), E1 IN24, E2 IN8, E3 IN20, E4 IN4, E5 AGND (power), E6 AVDD (power), E7 AVDD (power), F1 IN23, F2 IN7, F3 IN19, F4 IN3, F5 AGND (power), F6 AVDD (power), F7 CLK_CFG, F8 CLK, G1 IN22, G2 IN6, G3 IN18, G4 IN2, G5 AGND (power), G6 AVDD (power), G7 DIN_CFG, G8 DGND (power), H1 IN21, H2 IN5, H3 IN17, H4 IN1, H5 QGND (power), H6 AGND (power), H7 ~{DVALID} (out), H8 DCLK

## DF1706
designator IC?, comment <b>Stereo, 24-Bit, 192kHz 8x Oversampling Digital Interpolation Filter</b><p> / www.ti.com df1706.pdf  (value not drawn)
Part Number: DF1706EG4; Vendor: TEXAS INSTRUMENTS
footprint SSOP28DB
pins: 1 DIN, 2 BCKIN, 3 IIS, 4 IW0, 5 IW1, 6 XTI, 7 XTO (out), 8 DGND (power), 9 CLKO (out), 10 MODE, 11 MD/CKO, 12 MC/LRIP, 13 ML/RESV, 14 ~{RST}, 15 ~{MUTE}, 16 DEM, 17 SF0, 18 SF1, 19 OW0, 20 OW1, 21 OSS, 22 VDD (power), 23 DOR (out), 24 DOL (out), 25 WCKO (out), 26 BCKO (out), 27 SRO, 28 LRCIN

## DIT4192-H
designator IC?, comment <b>192kHz Digital Audio Transmitter</b> Hardware Mode<p> / Source: http://focus.ti.com/lit/ds/symlink/dit4192.pdf  (value not drawn)
Part Number: DIT4192IPW; Vendor: TEXAS INSTRUMENTS
footprint PW_R-PDSO-G28
pins: 1 CSS, 2 COPY/C, 3 L, 4 CLK1, 5 CLK0, 6 MCLK, 7 VIO (power), 8 DGND (power), 9 FMT0, 10 FMT1, 11 SCLK, 12 SYNC, 13 SDATA, 14 M/!S, 15 ~{RST}, 16 DGND (power), 17 TX- (out), 18 TX+ (out), 19 VDD (power), 20 MDAT, 21 MONO, 22 ~{AUDIO}, 23 ~{EMPH}, 24 BLSM, 25 BLS, 26 V, 27 U, 28 MODE

## DIT4192-S
designator IC?, comment <b>192kHz Digital Audio Transmitter</b> Software Mode<p> / Source: http://focus.ti.com/lit/ds/symlink/dit4192.pdf  (value not drawn)
Part Number: DIT4192IPW; Vendor: TEXAS INSTRUMENTS
footprint PW_R-PDSO-G28
pins: 1 NC, 2 CDOUT (out), 3 CCLK, 4 CDIN, 5 ~{CS}, 6 MCLK, 7 VIO (power), 8 DGND (power), 9 RXP, 10 NC, 11 SCLK, 12 SYNC, 13 SDATA, 14 NC, 15 ~{RST}, 16 DGND (power), 17 TX- (out), 18 TX+ (out), 19 VDD (power), 20 NC, 21 NC, 22 ~{INT} (oc), 23 NC, 24 NC, 25 BLS, 26 NC, 27 U, 28 MODE

## DIX4192
designator IC?, comment <b>Integrated Digital Audio Interface Receiver and Transmitter</b><p> / Auto generated by <i>make-symbol-device-package-bsdl.ulp Rev. 29</i><br> / Source: http://focus.ti.com/lit/ds/symlink/dix4192.pdf  (value not drawn)
Part Number: DIX4192IPFBG4; Vendor: TEXAS INSTRUMENTS
footprint S-PQFP-G48
pins: 1 RX1+, 2 RX1-, 3 RX2+, 4 RX2-, 5 RX3+, 6 RX3-, 7 RX4+, 8 RX4-, 9 VCC (power), 10 AGND (power), 11 LOCK (out), 12 RXCKO (out), 13 RXCKI, 14 NC, 15 NC, 16 DGND1 (power), 17 VDD18 (power), 18 CPM, 19 CS/A0, 20 CCLK/SCL, 21 CDIN/A1, 22 CDOUT/SDA, 23 INT (out), 24 RST, 25 MCLK, 26 GPO1 (out), 27 GPO2 (out), 28 GPO3 (out), 29 GPO4 (out), 30 DGND2 (power), 31 TX (out), 32 TX+ (out), 33 VDD33 (power), 34 AESOUT (out), 35 BLS, 36 SYNC (out), 37 BCKA, 38 LRCKA, 39 SDINA, 40 SDOUTA (out), 41 NC, 42 VIO (power), 43 DGND3 (power), 44 BGND (power), 45 SDOUTB (out), 46 SDINB, 47 LRCKB, 48 BCKB

## DRV8838DSGT
designator U?
1.8A Low Voltage Brushed DC Motor Driver 8-WSON -40 to 85; MF: Texas Instruments; Package: WSON-8 Texas Instruments; SnapEDA_Link: https://www.snapeda.com/parts/DRV8838DSGT/Texas%20Instruments/view-part/?ref=snap; Availability: Good; Price: 0.98 USD; MP: DRV8838DSGT; Value: *; Vendor: TEXAS INSTRUMENTS
footprint SON50P200X200X80-9N
pins: 1 VM (io), 2 OUT1 (out), 3 OUT2 (out), 4 GND (power), 5 EN (io), 6 PH (io), 7 NSLEEP (io), 8 VCC (power)

## DS1232LP
designator IC?, comment <b>Low Power MicroMonitor Chip</b><p> / Source: DALLAS SEMICONDUCTOR .. 1232lp.pdf  (value not drawn)
Part Number: DS1232LP+; Vendor: TEXAS INSTRUMENTS
footprint DIL08
pins: 1 ~{PBRST}, 2 TD, 3 TOL, 4 GND (power), 5 RST (out), 6 ~{RST} (out), 7 ~{ST}, 8 VCC (power)

## DS1232LPS
designator IC?, comment <b>Low Power MicroMonitor Chip</b><p> / Source: DALLAS SEMICONDUCTOR .. 1232lp.pdf  (value not drawn)
Part Number: DS1232LPS+; Vendor: TEXAS INSTRUMENTS
footprint SO-16DW
pins: 2 ~{PBRST}, 4 TD, 6 TOL, 8 GND (power), 9 RST (out), 11 ~{RST} (out), 13 ~{ST}, 15 VCC (power)

## DS1232LPS-2
designator IC?, comment <b>Low Power MicroMonitor Chip</b><p> / Source: DALLAS SEMICONDUCTOR .. 1232lp.pdf  (value not drawn)
Part Number: DS1232LPS-2; Vendor: TEXAS INSTRUMENTS
footprint SO-08
pins: 1 ~{PBRST}, 2 TD, 3 TOL, 4 GND (power), 5 RST (out), 6 ~{RST} (out), 7 ~{ST}, 8 VCC (power)

## INA125P
designator U?
Instrumentation Amplifier with Precision Voltage Reference 16-PDIP -40 to 85; Vendor: TEXAS INSTRUMENTS; Value: *; Part Number: INA125P
footprint DIL16
pins: 1 V+ (power), 2 ~{SLEEP}, 3 V- (power), 4 VREFOUT (out), 5 IAREF, 6 V+IN (power), 7 V-IN (power), 8 RG_2, 9 RG, 10 VO (out), 11 SENSE (in), 12 VREFCOM, 13 VREFBG (power), 14 VREF2.5 (power), 15 VREF5 (power), 16 VREF10 (power)
text: R; 2R; 4R; -; +; Bandgap

## ISO1050DUB
designator IC?, comment <b>ISOLATED CAN TRANSCEIVER</b><p> / Source: http://focus.ti.com/lit/ds/symlink/iso1050.pdf  (value not drawn)
Part Number: ISO1050DUBR; Vendor: TEXAS INSTRUMENTS
footprint DUB-R-PDSO-G8
pins: 1 VCC1, 2 RXD, 3 TXD, 4 GND1, 5 GND2, 6 CANL, 7 CANH, 8 VCC2

## ISO1176
designator IC?, comment <b>ISOLATED RS-485 PROFIBUS TRANSCEIVER</b><p> / Source: <a href="http://focus.ti.com/docs/prod/folders/print/iso1176.html"> Data sheet </a>  (value not drawn)
Part Number: ISO1176DW; Vendor: TEXAS INSTRUMENTS
footprint SO-16DW
pins: 1 VCC1, 2 GND1, 3 R, 4 ~{RE}, 5 DE, 6 D, 7 PV, 8 GND1, 9 GND2, 10 ISODE, 11 NC, 12 A, 13 B, 14 NC, 15 GND2, 16 VCC2

## ISO7220
designator IC?, comment <b>DUAL DIGITAL ISOLATORS</b><p> / Source: http://focus.ti.com/lit/ds/symlink/iso7221a.pdf  (value not drawn)
Part Number: ISO7220MD; Vendor: TEXAS INSTRUMENTS
footprint SO-08
pins: 1 VCC1 (power), 2 INA, 3 INB, 4 GND1 (power), 5 GND2 (power), 6 OUTB (out), 7 OUTA (out), 8 VCC2 (power)

## ISO7221
designator IC?, comment <b>DUAL DIGITAL ISOLATORS</b><p> / Source: http://focus.ti.com/lit/ds/symlink/iso7221a.pdf  (value not drawn)
Part Number: ISO7221MD; Vendor: TEXAS INSTRUMENTS
footprint SO-08
pins: 1 VCC1 (power), 2 OUTA (out), 3 INB, 4 GND1 (power), 5 GND2 (power), 6 OUTB (out), 7 INA, 8 VCC2 (power)

## ISO7240
designator IC?, comment <b>HIGH SPEED QUAD DIGITAL ISOLATORS</b><p> / Source: http://focus.ti.com/lit/ds/symlink/iso7240m.pdf  (value not drawn)
Part Number: ISO7240MDW; Vendor: TEXAS INSTRUMENTS
footprint SO-16DW
pins: 1 VCC1 (power), 2 GND1 (power), 3 INA, 4 INB, 5 INC, 6 IND, 7 NC, 8 GND1 (power), 9 GND2 (power), 10 EN, 11 OUTD (out), 12 OUTC (out), 13 OUTB (out), 14 OUTA (out), 15 GND2 (power), 16 VCC2 (power)

## ISO7241
designator IC?, comment <b>HIGH SPEED QUAD DIGITAL ISOLATORS</b><p> / Source: http://focus.ti.com/lit/ds/symlink/iso7240m.pdf  (value not drawn)
Part Number: ISO7241CDW; Vendor: TEXAS INSTRUMENTS
footprint SO-16DW
pins: 1 VCC1 (power), 2 GND1 (power), 3 INA, 4 INB, 5 INC, 6 OUTD (out), 7 EN1, 8 GND1 (power), 9 GND2 (power), 10 EN2, 11 IND, 12 OUTC (out), 13 OUTB (out), 14 OUTA (out), 15 GND2 (power), 16 VCC2 (power)

## ISO7242
designator IC?, comment <b>HIGH SPEED QUAD DIGITAL ISOLATORS</b><p> / Source: http://focus.ti.com/lit/ds/symlink/iso7240m.pdf  (value not drawn)
Part Number: ISO7242MDW; Vendor: TEXAS INSTRUMENTS
footprint SO-16DW
pins: 1 VCC1 (power), 2 GND1 (power), 3 INA, 4 INB, 5 OUTC (out), 6 OUTD (out), 7 EN1, 8 GND1 (power), 9 GND2 (power), 10 EN2, 11 IND, 12 INC, 13 OUTB (out), 14 OUTA (out), 15 GND2 (power), 16 VCC2 (power)

## L293E
designator IC?, comment <b>TI DEVICE</b>  (value not drawn)
Part Number: L293E; Vendor: TEXAS INSTRUMENTS
footprint DIL16
pins: 1 1-2EN, 2 1A, 3 1Y (out), 4 GND1 (power), 5 GND2 (power), 6 2Y (out), 7 2A, 8 VCC2 (power), 9 3-4EN, 10 3A, 11 3Y (out), 12 GND4 (power), 13 GND3 (power), 14 4Y (out), 15 4A, 16 VCC1 (power)

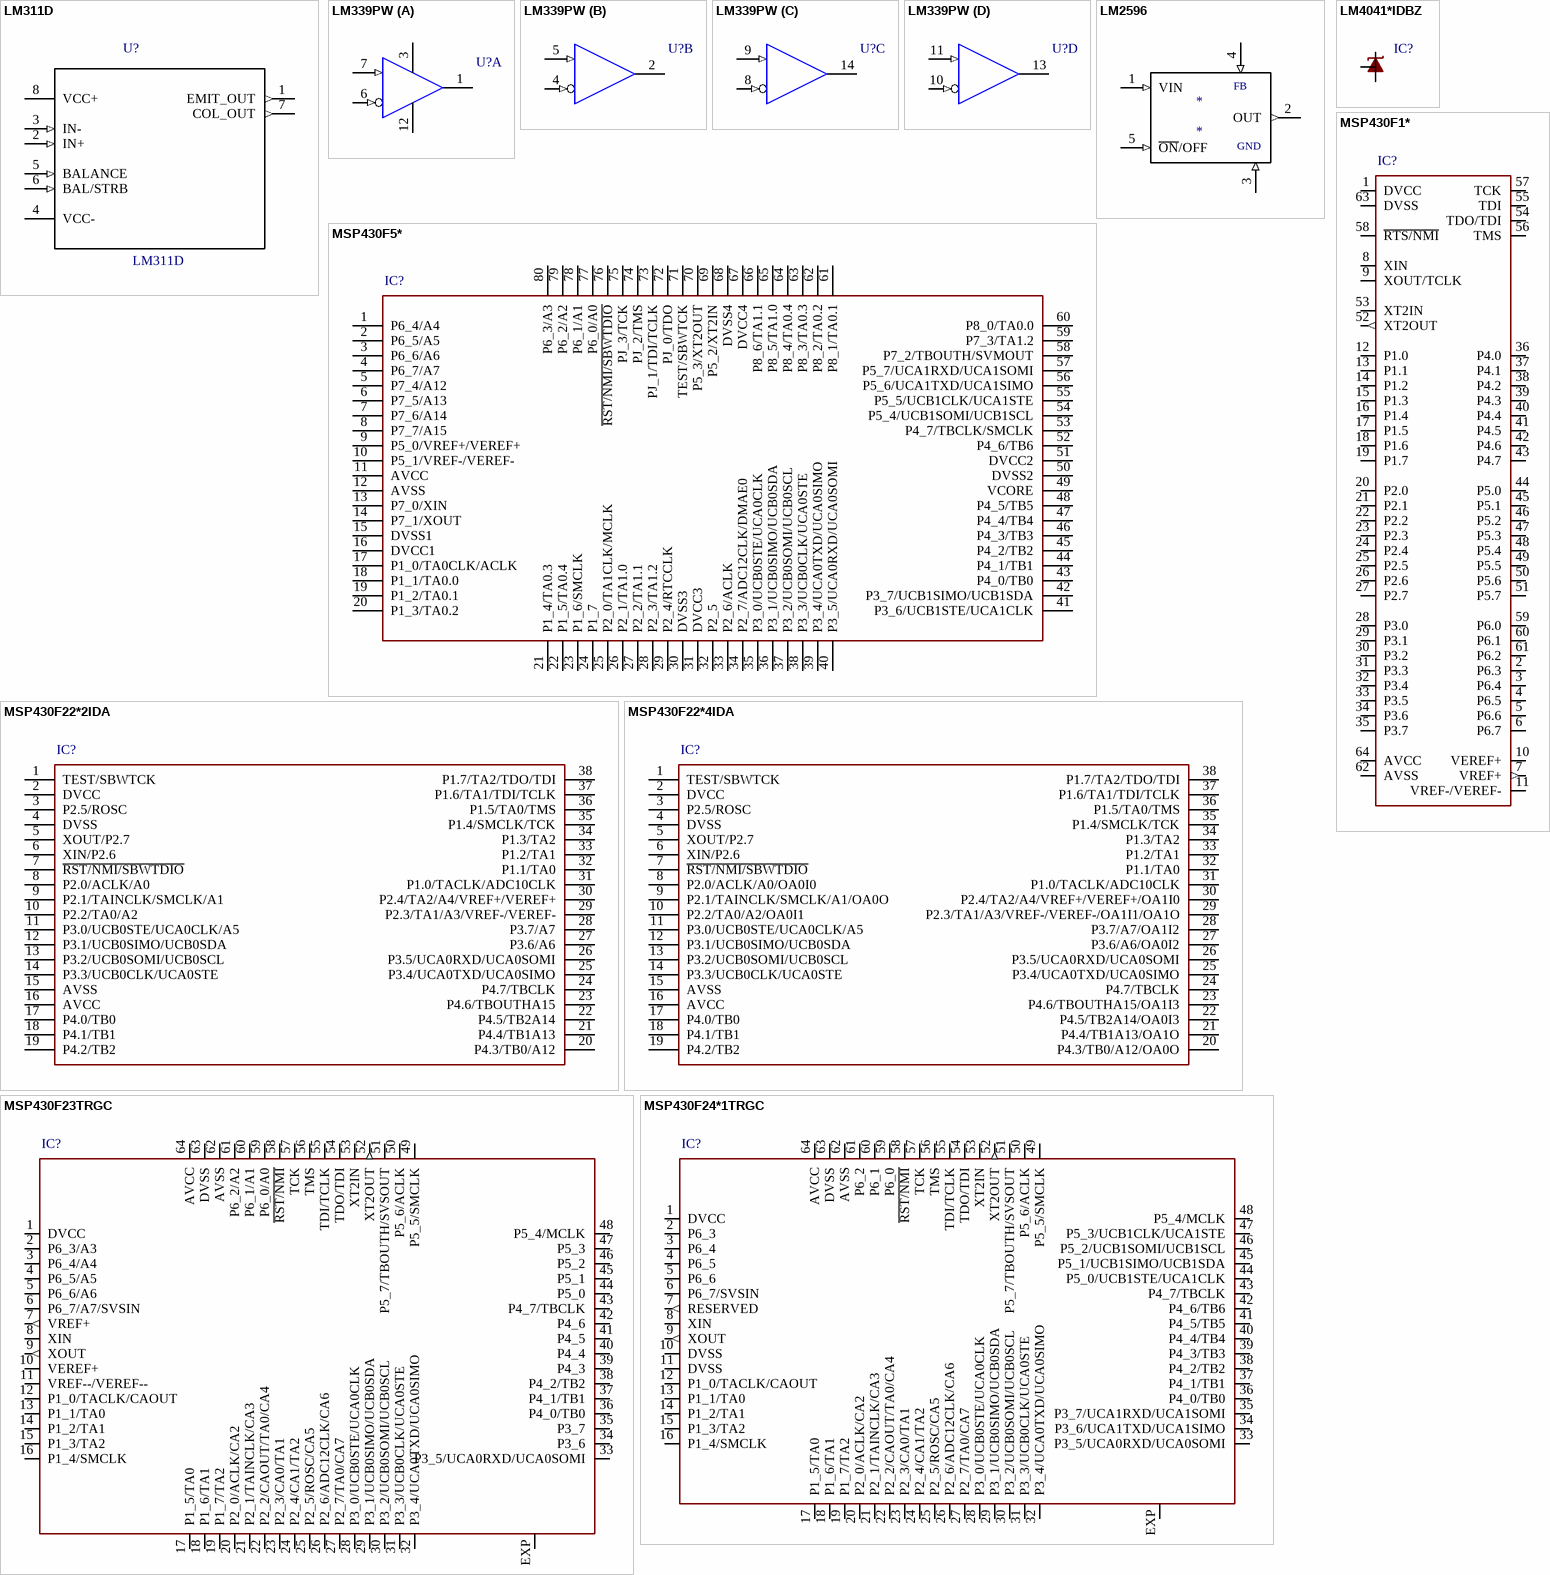
[diagram p3: symbols LM311D to MSP430F24*1TRGC]

## LM311D
designator U?
Part Number: LM311DR; Vendor: TEXAS INSTRUMENTS; Value: *
footprint SOIC8
pins: 1 EMIT_OUT (out), 2 IN+ (in), 3 IN- (in), 4 VCC-, 5 BALANCE (in), 6 BAL/STRB (in), 7 COL_OUT (out), 8 VCC+ (power)

## LM339PW
designator U?
Quad Differential Comparator; Published: 16-Jan-2001; LatestRevisionDate: 20-Jul-2007; LatestRevisionNote: Sch Symbol changed.; DatasheetVersion: Nov-1996; PackageVersion: Feb-1999; PackageReference: PW014; Publisher: Altium Limited; PackageDescription: 14-Pin Thin Small Outline Package 0.65 mm Pitch; ComponentLink1Description: Manufacturer Link; ComponentLink1URL: http://www.ti.com/; ComponentLink2Description: Datasheet; ComponentLink2URL: http://www-s.ti.com/sc/ds/lm339.pdf
footprint PW014_N (TSOP, 14-Leads, Body 5x4.4mm, Pitch 0.65mm, IPC Medium Density)
footprint PW014_L (TSOP, 14-Leads, Body 5x4.4mm, Pitch 0.65mm, IPC High Density)
footprint PW014_M (TSOP, 14-Leads, Body 5x4.4mm, Pitch 0.65mm, IPC Low Density)
part A pins: 1 OUT (oc), 3 Vcc (power), 6 IN- (in), 7 IN+ (in), 12 GND (power)
part B pins: 2 OUT (oc), 4 IN- (in), 5 IN+ (in)
part C pins: 8 IN- (in), 9 IN+ (in), 14 OUT (oc)
part D pins: 10 IN- (in), 11 IN+ (in), 13 OUT (oc)

## LM2596
designator *
footprint TO263-5
footprint TO-220-5
pins: 1 VIN (in), 2 OUT (out), 3 GND (in), 4 FB (in), 5 ~{ON}/OFF (in)

## LM4041*IDBZ
designator IC?, comment <b>PRECISION MICROPOWER SHUNT VOLTAGE REFERENCE</b> Adjustable Output<p> / Source: http://focus.ti.com/lit/ds/slcs146e/slcs146e.pdf  (value not drawn)
Part Number: LM4041DIDBZR; Vendor: TEXAS INSTRUMENTS
footprint DBZ_R-PDSO-G3
pins: 1 FB, 2 C, 3 A

## MSP430F1*
designator IC?, comment <b>MIXED SIGNAL MICROCONTROLLER</b><p> / Family Members Include:<br> / - MSP430F133: 8KB+256B Flash Memory, 256B RAM<br> / - MSP430F135: 16KB+256B Flash Memory, 512B RAM<br> / - MSP430F147, MSP430F1471: 32KB+256B Flash Memory, 1KB RAM<br> / - MSP430F148, MSP430F1481: 48KB+256B Flash Memory, 2KB RAM<br> / - MSP430F149, MSP430F1491: 60KB+256B Flash Memory, 2KB RAM  (value not drawn)
Part Number: MSP430F1491IPM; Vendor: TEXAS INSTRUMENTS
footprint SQFP-S-10X10-64
pins: 1 DVCC (power), 2 P6.3, 3 P6.4, 4 P6.5, 5 P6.6, 6 P6.7, 7 VREF+ (out), 8 XIN, 9 XOUT/TCLK, 10 VEREF+, 11 VREF-/VEREF-, 12 P1.0, 13 P1.1, 14 P1.2, 15 P1.3, 16 P1.4, 17 P1.5, 18 P1.6, 19 P1.7, 20 P2.0, 21 P2.1, 22 P2.2, 23 P2.3, 24 P2.4, 25 P2.5, 26 P2.6, 27 P2.7, 28 P3.0, 29 P3.1, 30 P3.2, 31 P3.3, 32 P3.4, 33 P3.5, 34 P3.6, 35 P3.7, 36 P4.0, 37 P4.1, 38 P4.2, 39 P4.3, 40 P4.4, 41 P4.5, 42 P4.6, 43 P4.7, 44 P5.0, 45 P5.1, 46 P5.2, 47 P5.3, 48 P5.4, 49 P5.5, 50 P5.6, 51 P5.7, 52 XT2OUT (out), 53 XT2IN, 54 TDO/TDI, 55 TDI, 56 TMS, 57 TCK, 58 ~{RTS/NMI}, 59 P6.0, 60 P6.1, 61 P6.2, 62 AVSS (power), 63 DVSS (power), 64 AVCC (power)

## MSP430F5*
designator IC?, comment <b>MIXED SIGNAL MICROCONTROLLER</b><p> / Auto generated by <i>make-symbol-device-package-bsdl.ulp Rev. 27</i><br> / Source: www.ti.com .. msp430f5437.pdf  (value not drawn)
Part Number: MSP430F5437AIPN; Vendor: TEXAS INSTRUMENTS
footprint PN_S-PQFP-G80
pins: 1 P6_4/A4, 2 P6_5/A5, 3 P6_6/A6, 4 P6_7/A7, 5 P7_4/A12, 6 P7_5/A13, 7 P7_6/A14, 8 P7_7/A15, 9 P5_0/VREF+/VEREF+, 10 P5_1/VREF-/VEREF-, 11 AVCC (power), 12 AVSS (power), 13 P7_0/XIN, 14 P7_1/XOUT, 15 DVSS1 (power), 16 DVCC1 (power), 17 P1_0/TA0CLK/ACLK, 18 P1_1/TA0.0, 19 P1_2/TA0.1, 20 P1_3/TA0.2, 21 P1_4/TA0.3, 22 P1_5/TA0.4, 23 P1_6/SMCLK, 24 P1_7, 25 P2_0/TA1CLK/MCLK, 26 P2_1/TA1.0, 27 P2_2/TA1.1, 28 P2_3/TA1.2, 29 P2_4/RTCCLK, 30 DVSS3 (power), 31 DVCC3 (power), 32 P2_5, 33 P2_6/ACLK, 34 P2_7/ADC12CLK/DMAE0, 35 P3_0/UCB0STE/UCA0CLK, 36 P3_1/UCB0SIMO/UCB0SDA, 37 P3_2/UCB0SOMI/UCB0SCL, 38 P3_3/UCB0CLK/UCA0STE, 39 P3_4/UCA0TXD/UCA0SIMO, 40 P3_5/UCA0RXD/UCA0SOMI, 41 P3_6/UCB1STE/UCA1CLK, 42 P3_7/UCB1SIMO/UCB1SDA, 43 P4_0/TB0, 44 P4_1/TB1, 45 P4_2/TB2, 46 P4_3/TB3, 47 P4_4/TB4, 48 P4_5/TB5, 49 VCORE (power), 50 DVSS2 (power), 51 DVCC2 (power), 52 P4_6/TB6, 53 P4_7/TBCLK/SMCLK, 54 P5_4/UCB1SOMI/UCB1SCL, 55 P5_5/UCB1CLK/UCA1STE, 56 P5_6/UCA1TXD/UCA1SIMO, 57 P5_7/UCA1RXD/UCA1SOMI, 58 P7_2/TBOUTH/SVMOUT, 59 P7_3/TA1.2, 60 P8_0/TA0.0, 61 P8_1/TA0.1, 62 P8_2/TA0.2, 63 P8_3/TA0.3, 64 P8_4/TA0.4, 65 P8_5/TA1.0, 66 P8_6/TA1.1, 67 DVCC4 (power), 68 DVSS4 (power), 69 P5_2/XT2IN, 70 P5_3/XT2OUT, 71 TEST/SBWTCK, 72 PJ_0/TDO, 73 PJ_1/TDI/TCLK, 74 PJ_2/TMS, 75 PJ_3/TCK, 76 ~{RST/NMI/SBWTDIO}, 77 P6_0/A0, 78 P6_1/A1, 79 P6_2/A2, 80 P6_3/A3

## MSP430F22*2IDA
designator IC?, comment <b>MIXED SIGNAL MICROCONTROLLER</b> / Source: http://focus.ti.com/lit/ds/symlink/msp430f2274.pdf  (value not drawn)
Part Number: MSP430F2272IDA; Vendor: TEXAS INSTRUMENTS
footprint TSSOP38_R-PDSO-G38-DA
pins: 1 TEST/SBWTCK, 2 DVCC (power), 3 P2.5/ROSC, 4 DVSS (power), 5 XOUT/P2.7, 6 XIN/P2.6, 7 ~{RST/NMI/SBWTDIO}, 8 P2.0/ACLK/A0, 9 P2.1/TAINCLK/SMCLK/A1, 10 P2.2/TA0/A2, 11 P3.0/UCB0STE/UCA0CLK/A5, 12 P3.1/UCB0SIMO/UCB0SDA, 13 P3.2/UCB0SOMI/UCB0SCL, 14 P3.3/UCB0CLK/UCA0STE, 15 AVSS (power), 16 AVCC (power), 17 P4.0/TB0, 18 P4.1/TB1, 19 P4.2/TB2, 20 P4.3/TB0/A12, 21 P4.4/TB1A13, 22 P4.5/TB2A14, 23 P4.6/TBOUTHA15, 24 P4.7/TBCLK, 25 P3.4/UCA0TXD/UCA0SIMO, 26 P3.5/UCA0RXD/UCA0SOMI, 27 P3.6/A6, 28 P3.7/A7, 29 P2.3/TA1/A3/VREF-/VEREF-, 30 P2.4/TA2/A4/VREF+/VEREF+, 31 P1.0/TACLK/ADC10CLK, 32 P1.1/TA0, 33 P1.2/TA1, 34 P1.3/TA2, 35 P1.4/SMCLK/TCK, 36 P1.5/TA0/TMS, 37 P1.6/TA1/TDI/TCLK, 38 P1.7/TA2/TDO/TDI

## MSP430F22*4IDA
designator IC?, comment <b>MIXED SIGNAL MICROCONTROLLER</b> / Source: http://focus.ti.com/lit/ds/symlink/msp430f2274.pdf  (value not drawn)
Part Number: MSP430F2274IDA; Vendor: TEXAS INSTRUMENTS
footprint TSSOP38_R-PDSO-G38-DA
pins: 1 TEST/SBWTCK, 2 DVCC (power), 3 P2.5/ROSC, 4 DVSS (power), 5 XOUT/P2.7, 6 XIN/P2.6, 7 ~{RST/NMI/SBWTDIO}, 8 P2.0/ACLK/A0/OA0I0, 9 P2.1/TAINCLK/SMCLK/A1/OA0O, 10 P2.2/TA0/A2/OA0I1, 11 P3.0/UCB0STE/UCA0CLK/A5, 12 P3.1/UCB0SIMO/UCB0SDA, 13 P3.2/UCB0SOMI/UCB0SCL, 14 P3.3/UCB0CLK/UCA0STE, 15 AVSS (power), 16 AVCC (power), 17 P4.0/TB0, 18 P4.1/TB1, 19 P4.2/TB2, 20 P4.3/TB0/A12/OA0O, 21 P4.4/TB1A13/OA1O, 22 P4.5/TB2A14/OA0I3, 23 P4.6/TBOUTHA15/OA1I3, 24 P4.7/TBCLK, 25 P3.4/UCA0TXD/UCA0SIMO, 26 P3.5/UCA0RXD/UCA0SOMI, 27 P3.6/A6/OA0I2, 28 P3.7/A7/OA1I2, 29 P2.3/TA1/A3/VREF-/VEREF-/OA1I1/OA1O, 30 P2.4/TA2/A4/VREF+/VEREF+/OA1I0, 31 P1.0/TACLK/ADC10CLK, 32 P1.1/TA0, 33 P1.2/TA1, 34 P1.3/TA2, 35 P1.4/SMCLK/TCK, 36 P1.5/TA0/TMS, 37 P1.6/TA1/TDI/TCLK, 38 P1.7/TA2/TDO/TDI

## MSP430F23TRGC
designator IC?, comment <b>MIXED SIGNAL MICROCONTROLLER</b><p> / Source: http://focus.ti.com/lit/ds/symlink/msp430f2471.pdf  (value not drawn)
Part Number: MSP430F235TRGCT; Vendor: TEXAS INSTRUMENTS
footprint RGC_S-PVQFV-N64
pins: 1 DVCC (power), 2 P6_3/A3, 3 P6_4/A4, 4 P6_5/A5, 5 P6_6/A6, 6 P6_7/A7/SVSIN, 7 VREF+ (out), 8 XIN, 9 XOUT (out), 10 VEREF+, 11 VREF--/VEREF--, 12 P1_0/TACLK/CAOUT, 13 P1_1/TA0, 14 P1_2/TA1, 15 P1_3/TA2, 16 P1_4/SMCLK, 17 P1_5/TA0, 18 P1_6/TA1, 19 P1_7/TA2, 20 P2_0/ACLK/CA2, 21 P2_1/TAINCLK/CA3, 22 P2_2/CAOUT/TA0/CA4, 23 P2_3/CA0/TA1, 24 P2_4/CA1/TA2, 25 P2_5/ROSC/CA5, 26 P2_6/ADC12CLK/CA6, 27 P2_7/TA0/CA7, 28 P3_0/UCB0STE/UCA0CLK, 29 P3_1/UCB0SIMO/UCB0SDA, 30 P3_2/UCB0SOMI/UCB0SCL, 31 P3_3/UCB0CLK/UCA0STE, 32 P3_4/UCA0TXD/UCA0SIMO, 33 P3_5/UCA0RXD/UCA0SOMI, 34 P3_6, 35 P3_7, 36 P4_0/TB0, 37 P4_1/TB1, 38 P4_2/TB2, 39 P4_3, 40 P4_4, 41 P4_5, 42 P4_6, 43 P4_7/TBCLK, 44 P5_0, 45 P5_1, 46 P5_2, 47 P5_3, 48 P5_4/MCLK, 49 P5_5/SMCLK, 50 P5_6/ACLK, 51 P5_7/TBOUTH/SVSOUT, 52 XT2OUT (out), 53 XT2IN, 54 TDO/TDI, 55 TDI/TCLK, 56 TMS, 57 TCK, 58 ~{RST/NMI}, 59 P6_0/A0, 60 P6_1/A1, 61 P6_2/A2, 62 AVSS (power), 63 DVSS (power), 64 AVCC (power), EXP

## MSP430F24*1TRGC
designator IC?, comment <b>MIXED SIGNAL MICROCONTROLLER</b><p> / Source: http://focus.ti.com/lit/ds/symlink/msp430f2471.pdf  (value not drawn)
Part Number: MSP430F2491TRGCT; Vendor: TEXAS INSTRUMENTS
footprint RGC_S-PVQFV-N64
pins: 1 DVCC (power), 2 P6_3, 3 P6_4, 4 P6_5, 5 P6_6, 6 P6_7/SVSIN, 7 RESERVED (out), 8 XIN, 9 XOUT (out), 10 DVSS, 11 DVSS, 12 P1_0/TACLK/CAOUT, 13 P1_1/TA0, 14 P1_2/TA1, 15 P1_3/TA2, 16 P1_4/SMCLK, 17 P1_5/TA0, 18 P1_6/TA1, 19 P1_7/TA2, 20 P2_0/ACLK/CA2, 21 P2_1/TAINCLK/CA3, 22 P2_2/CAOUT/TA0/CA4, 23 P2_3/CA0/TA1, 24 P2_4/CA1/TA2, 25 P2_5/ROSC/CA5, 26 P2_6/ADC12CLK/CA6, 27 P2_7/TA0/CA7, 28 P3_0/UCB0STE/UCA0CLK, 29 P3_1/UCB0SIMO/UCB0SDA, 30 P3_2/UCB0SOMI/UCB0SCL, 31 P3_3/UCB0CLK/UCA0STE, 32 P3_4/UCA0TXD/UCA0SIMO, 33 P3_5/UCA0RXD/UCA0SOMI, 34 P3_6/UCA1TXD/UCA1SIMO, 35 P3_7/UCA1RXD/UCA1SOMI, 36 P4_0/TB0, 37 P4_1/TB1, 38 P4_2/TB2, 39 P4_3/TB3, 40 P4_4/TB4, 41 P4_5/TB5, 42 P4_6/TB6, 43 P4_7/TBCLK, 44 P5_0/UCB1STE/UCA1CLK, 45 P5_1/UCB1SIMO/UCB1SDA, 46 P5_2/UCB1SOMI/UCB1SCL, 47 P5_3/UCB1CLK/UCA1STE, 48 P5_4/MCLK, 49 P5_5/SMCLK, 50 P5_6/ACLK, 51 P5_7/TBOUTH/SVSOUT, 52 XT2OUT (out), 53 XT2IN, 54 TDO/TDI, 55 TDI/TCLK, 56 TMS, 57 TCK, 58 ~{RST/NMI}, 59 P6_0, 60 P6_1, 61 P6_2, 62 AVSS (power), 63 DVSS (power), 64 AVCC (power), EXP

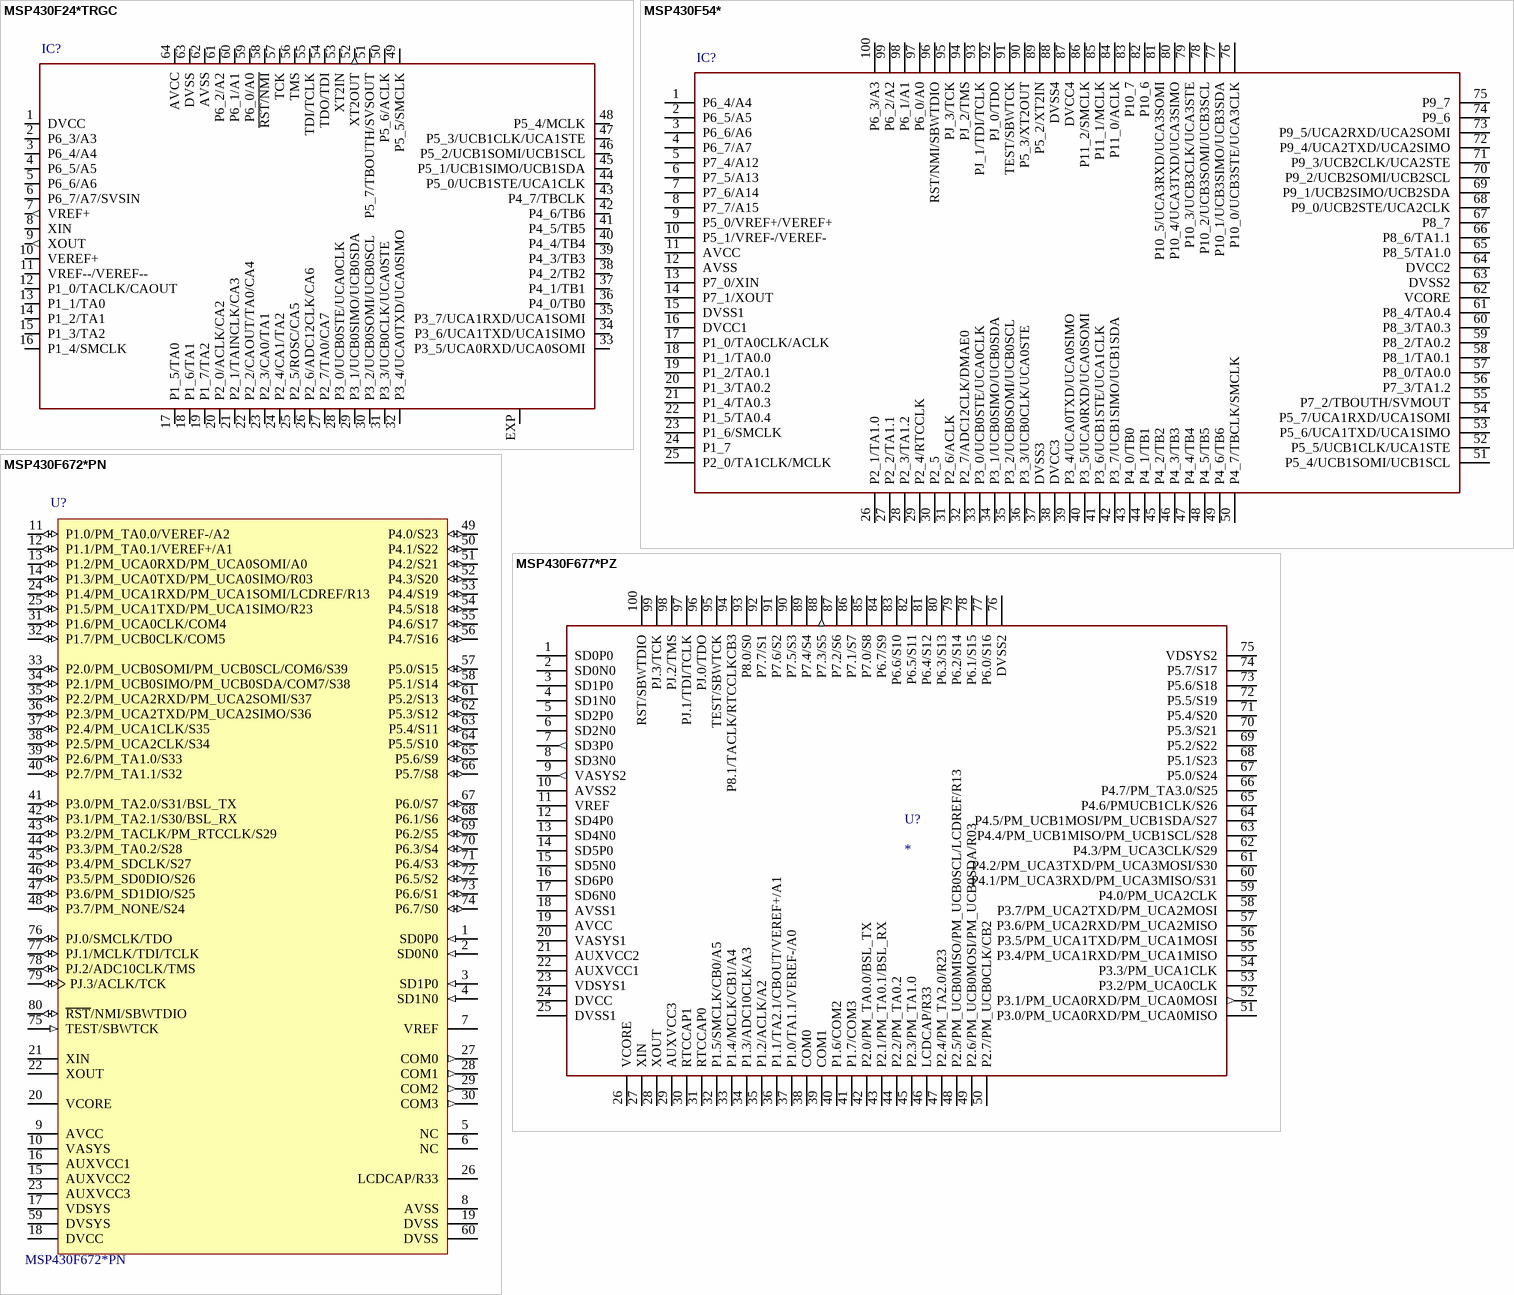
[diagram p4: symbols MSP430F24*TRGC to MSP430F677*PZ]

## MSP430F24*TRGC
designator IC?, comment <b>MIXED SIGNAL MICROCONTROLLER</b><p> / Source: http://focus.ti.com/lit/ds/symlink/msp430f2471.pdf  (value not drawn)
Vendor: TEXAS INSTRUMENTS
footprint RGC_S-PVQFV-N64
pins: 1 DVCC (power), 2 P6_3/A3, 3 P6_4/A4, 4 P6_5/A5, 5 P6_6/A6, 6 P6_7/A7/SVSIN, 7 VREF+ (out), 8 XIN, 9 XOUT (out), 10 VEREF+, 11 VREF--/VEREF--, 12 P1_0/TACLK/CAOUT, 13 P1_1/TA0, 14 P1_2/TA1, 15 P1_3/TA2, 16 P1_4/SMCLK, 17 P1_5/TA0, 18 P1_6/TA1, 19 P1_7/TA2, 20 P2_0/ACLK/CA2, 21 P2_1/TAINCLK/CA3, 22 P2_2/CAOUT/TA0/CA4, 23 P2_3/CA0/TA1, 24 P2_4/CA1/TA2, 25 P2_5/ROSC/CA5, 26 P2_6/ADC12CLK/CA6, 27 P2_7/TA0/CA7, 28 P3_0/UCB0STE/UCA0CLK, 29 P3_1/UCB0SIMO/UCB0SDA, 30 P3_2/UCB0SOMI/UCB0SCL, 31 P3_3/UCB0CLK/UCA0STE, 32 P3_4/UCA0TXD/UCA0SIMO, 33 P3_5/UCA0RXD/UCA0SOMI, 34 P3_6/UCA1TXD/UCA1SIMO, 35 P3_7/UCA1RXD/UCA1SOMI, 36 P4_0/TB0, 37 P4_1/TB1, 38 P4_2/TB2, 39 P4_3/TB3, 40 P4_4/TB4, 41 P4_5/TB5, 42 P4_6/TB6, 43 P4_7/TBCLK, 44 P5_0/UCB1STE/UCA1CLK, 45 P5_1/UCB1SIMO/UCB1SDA, 46 P5_2/UCB1SOMI/UCB1SCL, 47 P5_3/UCB1CLK/UCA1STE, 48 P5_4/MCLK, 49 P5_5/SMCLK, 50 P5_6/ACLK, 51 P5_7/TBOUTH/SVSOUT, 52 XT2OUT (out), 53 XT2IN, 54 TDO/TDI, 55 TDI/TCLK, 56 TMS, 57 TCK, 58 ~{RST/NMI}, 59 P6_0/A0, 60 P6_1/A1, 61 P6_2/A2, 62 AVSS (power), 63 DVSS (power), 64 AVCC (power), EXP

## MSP430F54*
designator IC?, comment <b>MIXED SIGNAL MICROCONTROLLER</b><p> / Auto generated by <i>make-symbol-device-package-bsdl.ulp Rev. 27</i><br> / Source: www.ti.com .. msp430f5437.pdf  (value not drawn)
Part Number: MSP430F5438AIPZ; Vendor: TEXAS INSTRUMENTS
footprint PZ_S-PQFP-G100
pins: 1 P6_4/A4, 2 P6_5/A5, 3 P6_6/A6, 4 P6_7/A7, 5 P7_4/A12, 6 P7_5/A13, 7 P7_6/A14, 8 P7_7/A15, 9 P5_0/VREF+/VEREF+, 10 P5_1/VREF-/VEREF-, 11 AVCC (power), 12 AVSS (power), 13 P7_0/XIN, 14 P7_1/XOUT, 15 DVSS1 (power), 16 DVCC1 (power), 17 P1_0/TA0CLK/ACLK, 18 P1_1/TA0.0, 19 P1_2/TA0.1, 20 P1_3/TA0.2, 21 P1_4/TA0.3, 22 P1_5/TA0.4, 23 P1_6/SMCLK, 24 P1_7, 25 P2_0/TA1CLK/MCLK, 26 P2_1/TA1.0, 27 P2_2/TA1.1, 28 P2_3/TA1.2, 29 P2_4/RTCCLK, 30 P2_5, 31 P2_6/ACLK, 32 P2_7/ADC12CLK/DMAE0, 33 P3_0/UCB0STE/UCA0CLK, 34 P3_1/UCB0SIMO/UCB0SDA, 35 P3_2/UCB0SOMI/UCB0SCL, 36 P3_3/UCB0CLK/UCA0STE, 37 DVSS3 (power), 38 DVCC3 (power), 39 P3_4/UCA0TXD/UCA0SIMO, 40 P3_5/UCA0RXD/UCA0SOMI, 41 P3_6/UCB1STE/UCA1CLK, 42 P3_7/UCB1SIMO/UCB1SDA, 43 P4_0/TB0, 44 P4_1/TB1, 45 P4_2/TB2, 46 P4_3/TB3, 47 P4_4/TB4, 48 P4_5/TB5, 49 P4_6/TB6, 50 P4_7/TBCLK/SMCLK, 51 P5_4/UCB1SOMI/UCB1SCL, 52 P5_5/UCB1CLK/UCA1STE, 53 P5_6/UCA1TXD/UCA1SIMO, 54 P5_7/UCA1RXD/UCA1SOMI, 55 P7_2/TBOUTH/SVMOUT, 56 P7_3/TA1.2, 57 P8_0/TA0.0, 58 P8_1/TA0.1, 59 P8_2/TA0.2, 60 P8_3/TA0.3, 61 P8_4/TA0.4, 62 VCORE (power), 63 DVSS2 (power), 64 DVCC2 (power), 65 P8_5/TA1.0, 66 P8_6/TA1.1, 67 P8_7, 68 P9_0/UCB2STE/UCA2CLK, 69 P9_1/UCB2SIMO/UCB2SDA, 70 P9_2/UCB2SOMI/UCB2SCL, 71 P9_3/UCB2CLK/UCA2STE, 72 P9_4/UCA2TXD/UCA2SIMO, 73 P9_5/UCA2RXD/UCA2SOMI, 74 P9_6, 75 P9_7, 76 P10_0/UCB3STE/UCA3CLK, 77 P10_1/UCB3SIMO/UCB3SDA, 78 P10_2/UCB3SOMI/UCB3SCL, 79 P10_3/UCB3CLK/UCA3STE, 80 P10_4/UCA3TXD/UCA3SIMO, 81 P10_5/UCA3RXD/UCA3SOMI, 82 P10_6, 83 P10_7, 84 P11_0/ACLK, 85 P11_1/MCLK, 86 P11_2/SMCLK, 87 DVCC4 (power), 88 DVSS4 (power), 89 P5_2/XT2IN, 90 P5_3/XT2OUT, 91 TEST/SBWTCK, 92 PJ_0/TDO, 93 PJ_1/TDI/TCLK, 94 PJ_2/TMS, 95 PJ_3/TCK, 96 RST/NMI/SBWTDIO, 97 P6_0/A0, 98 P6_1/A1, 99 P6_2/A2, 100 P6_3/A3

## MSP430F672*PN
designator U?  Part Number: MSP430F672*PN
Vendor: TEXAS INSTRUMENTS; Value: *
footprint PN_S-PQFP-G80
pins: 1 SD0P0 (in) "SD24_B positive analog input for converter 0", 2 SD0N0 (in) "SD24_B negative analog input for converter 0", 3 SD1P0 (in) "SD24_B positive analog input for converter 1", 4 SD1N0 (in) "SD24_B negative analog input for converter 1", 5 NC, 6 NC, 7 VREF "SD24_B external reference voltage", 8 AVSS (power) "Analog ground supply", 9 AVCC (power) "Analog power supply", 10 VASYS (power) "Analog power supply selected between AVCC, AUXVCC1, AUXVCC2. Connect recommended capacitor value of CVSYS", 11 P1.0/PM_TA0.0/VEREF-/A2 (io), 12 P1.1/PM_TA0.1/VEREF+/A1 (io), 13 P1.2/PM_UCA0RXD/PM_UCA0SOMI/A0 (io), 14 P1.3/PM_UCA0TXD/PM_UCA0SIMO/R03 (io), 15 AUXVCC2 (power) "Auxiliary power supply AUXVCC2", 16 AUXVCC1 (power) "Auxiliary power supply AUXVCC1", 17 VDSYS (power) "Digital power supply selected between DVCC, AUXVCC1, AUXVCC2. Connect recommended capacitor value of CVSYS", 18 DVCC (power) "Digital power supply", 19 DVSS (power) "Digital ground supply", 20 VCORE "Regulated core power supply (internal use only, no external current loading)", 21 XIN "Input terminal for crystal oscillator", 22 XOUT "Output terminal for crystal oscillator", 23 AUXVCC3 (power) "Auxiliary power supply AUXVCC3 for back up subsystem", 24 P1.4/PM_UCA1RXD/PM_UCA1SOMI/LCDREF/R13 (io), 25 P1.5/PM_UCA1TXD/PM_UCA1SIMO/R23 (io), 26 LCDCAP/R33, 27 COM0 (out) "LCD common output COM0 for LCD backplane", 28 COM1 (out) "LCD common output COM1 for LCD backplane", 29 COM2 (out) "LCD common output COM2 for LCD backplane", 30 COM3 (out) "LCD common output COM3 for LCD backplane", 31 P1.6/PM_UCA0CLK/COM4 (io), 32 P1.7/PM_UCB0CLK/COM5 (io), 33 P2.0/PM_UCB0SOMI/PM_UCB0SCL/COM6/S39 (io), 34 P2.1/PM_UCB0SIMO/PM_UCB0SDA/COM7/S38 (io), 35 P2.2/PM_UCA2RXD/PM_UCA2SOMI/S37 (io), 36 P2.3/PM_UCA2TXD/PM_UCA2SIMO/S36 (io), 37 P2.4/PM_UCA1CLK/S35 (io), 38 P2.5/PM_UCA2CLK/S34 (io), 39 P2.6/PM_TA1.0/S33 (io), 40 P2.7/PM_TA1.1/S32 (io), 41 P3.0/PM_TA2.0/S31/BSL_TX (io), 42 P3.1/PM_TA2.1/S30/BSL_RX (io), 43 P3.2/PM_TACLK/PM_RTCCLK/S29 (io), 44 P3.3/PM_TA0.2/S28 (io), 45 P3.4/PM_SDCLK/S27 (io), 46 P3.5/PM_SD0DIO/S26 (io), 47 P3.6/PM_SD1DIO/S25 (io), 48 P3.7/PM_NONE/S24 (io), 49 P4.0/S23 (io), 50 P4.1/S22 (io), 51 P4.2/S21 (io), 52 P4.3/S20 (io), 53 P4.4/S19 (io), 54 P4.5/S18 (io), 55 P4.6/S17 (io), 56 P4.7/S16 (io), 57 P5.0/S15 (io), 58 P5.1/S14 (io), 59 DVSYS (power) "Digital power supply for I/Os", 60 DVSS (power) "Digital ground supply", 61 P5.2/S13 (io), 62 P5.3/S12 (io), 63 P5.4/S11 (io), 64 P5.5/S10 (io), 65 P5.6/S9 (io), 66 P5.7/S8 (io), 67 P6.0/S7 (io), 68 P6.1/S6 (io), 69 P6.2/S5 (io), 70 P6.3/S4 (io), 71 P6.4/S3 (io), 72 P6.5/S2 (io), 73 P6.6/S1 (io), 74 P6.7/S0 (io), 75 TEST/SBWTCK (in), 76 PJ.0/SMCLK/TDO (io), 77 PJ.1/MCLK/TDI/TCLK (io), 78 PJ.2/ADC10CLK/TMS (io), 79 PJ.3/ACLK/TCK (io), 80 ~{RST}/NMI/SBWTDIO (io)

## MSP430F677*PZ
designator U?
Microcontrolador MSP430; Vendor: TEXAS INSTRUMENTS
footprint PZ_S-PQFP-G100
pins: 1 SD0P0 (power), 2 SD0N0, 3 SD1P0, 4 SD1N0, 5 SD2P0, 6 SD2N0, 7 SD3P0 (out), 8 SD3N0, 9 VASYS2 (out), 10 AVSS2, 11 VREF, 12 SD4P0, 13 SD4N0, 14 SD5P0, 15 SD5N0, 16 SD6P0, 17 SD6N0, 18 AVSS1, 19 AVCC, 20 VASYS1, 21 AUXVCC2, 22 AUXVCC1, 23 VDSYS1, 24 DVCC, 25 DVSS1, 26 VCORE, 27 XIN, 28 XOUT, 29 AUXVCC3, 30 RTCCAP1, 31 RTCCAP0, 32 P1.5/SMCLK/CB0/A5, 33 P1.4/MCLK/CB1/A4, 34 P1.3/ADC10CLK/A3, 35 P1.2/ACLK/A2, 36 P1.1/TA2.1/CBOUT/VEREF+/A1, 37 P1.0/TA1.1/VEREF-/A0, 38 COM0, 39 COM1, 40 P1.6/COM2, 41 P1.7/COM3, 42 P2.0/PM_TA0.0/BSL_TX, 43 P2.1/PM_TA0.1/BSL_RX, 44 P2.2/PM_TA0.2, 45 P2.3/PM_TA1.0, 46 LCDCAP/R33, 47 P2.4/PM_TA2.0/R23, 48 P2.5/PM_UCB0MISO/PM_UCB0SCL/LCDREF/R13, 49 P2.6/PM_UCB0MOSI/PM_UCB0SDA/R03, 50 P2.7/PM_UCB0CLK/CB2, 51 P3.0/PM_UCA0RXD/PM_UCA0MISO, 52 P3.1/PM_UCA0RXD/PM_UCA0MOSI (out), 53 P3.2/PM_UCA0CLK, 54 P3.3/PM_UCA1CLK, 55 P3.4/PM_UCA1RXD/PM_UCA1MISO, 56 P3.5/PM_UCA1TXD/PM_UCA1MOSI, 57 P3.6/PM_UCA2RXD/PM_UCA2MISO, 58 P3.7/PM_UCA2TXD/PM_UCA2MOSI, 59 P4.0/PM_UCA2CLK, 60 P4.1/PM_UCA3RXD/PM_UCA3MISO/S31 (power), 61 P4.2/PM_UCA3TXD/PM_UCA3MOSI/S30 (power), 62 P4.3/PM_UCA3CLK/S29, 63 P4.4/PM_UCB1MISO/PM_UCB1SCL/S28, 64 P4.5/PM_UCB1MOSI/PM_UCB1SDA/S27, 65 P4.6/PMUCB1CLK/S26, 66 P4.7/PM_TA3.0/S25, 67 P5.0/S24, 68 P5.1/S23, 69 P5.2/S22, 70 P5.3/S21, 71 P5.4/S20, 72 P5.5/S19, 73 P5.6/S18, 74 P5.7/S17, 75 VDSYS2, 76 DVSS2, 77 P6.0/S16, 78 P6.1/S15, 79 P6.2/S14, 80 P6.3/S13, 81 P6.4/S12, 82 P6.5/S11, 83 P6.6/S10, 84 P6.7/S9, 85 P7.0/S8, 86 P7.1/S7, 87 P7.2/S6, 88 P7.3/S5 (out), 89 P7.4/S4, 90 P7.5/S3, 91 P7.6/S2, 92 P7.7/S1, 93 P8.0/S0, 94 P8.1/TACLK/RTCCLKCB3, 95 TEST/SBWTCK, 96 PJ.0/TDO, 97 PJ.1/TDI/TCLK, 98 PJ.2/TMS (power), 99 PJ.3/TCK (power), 100 RST/SBWTDIO (power)

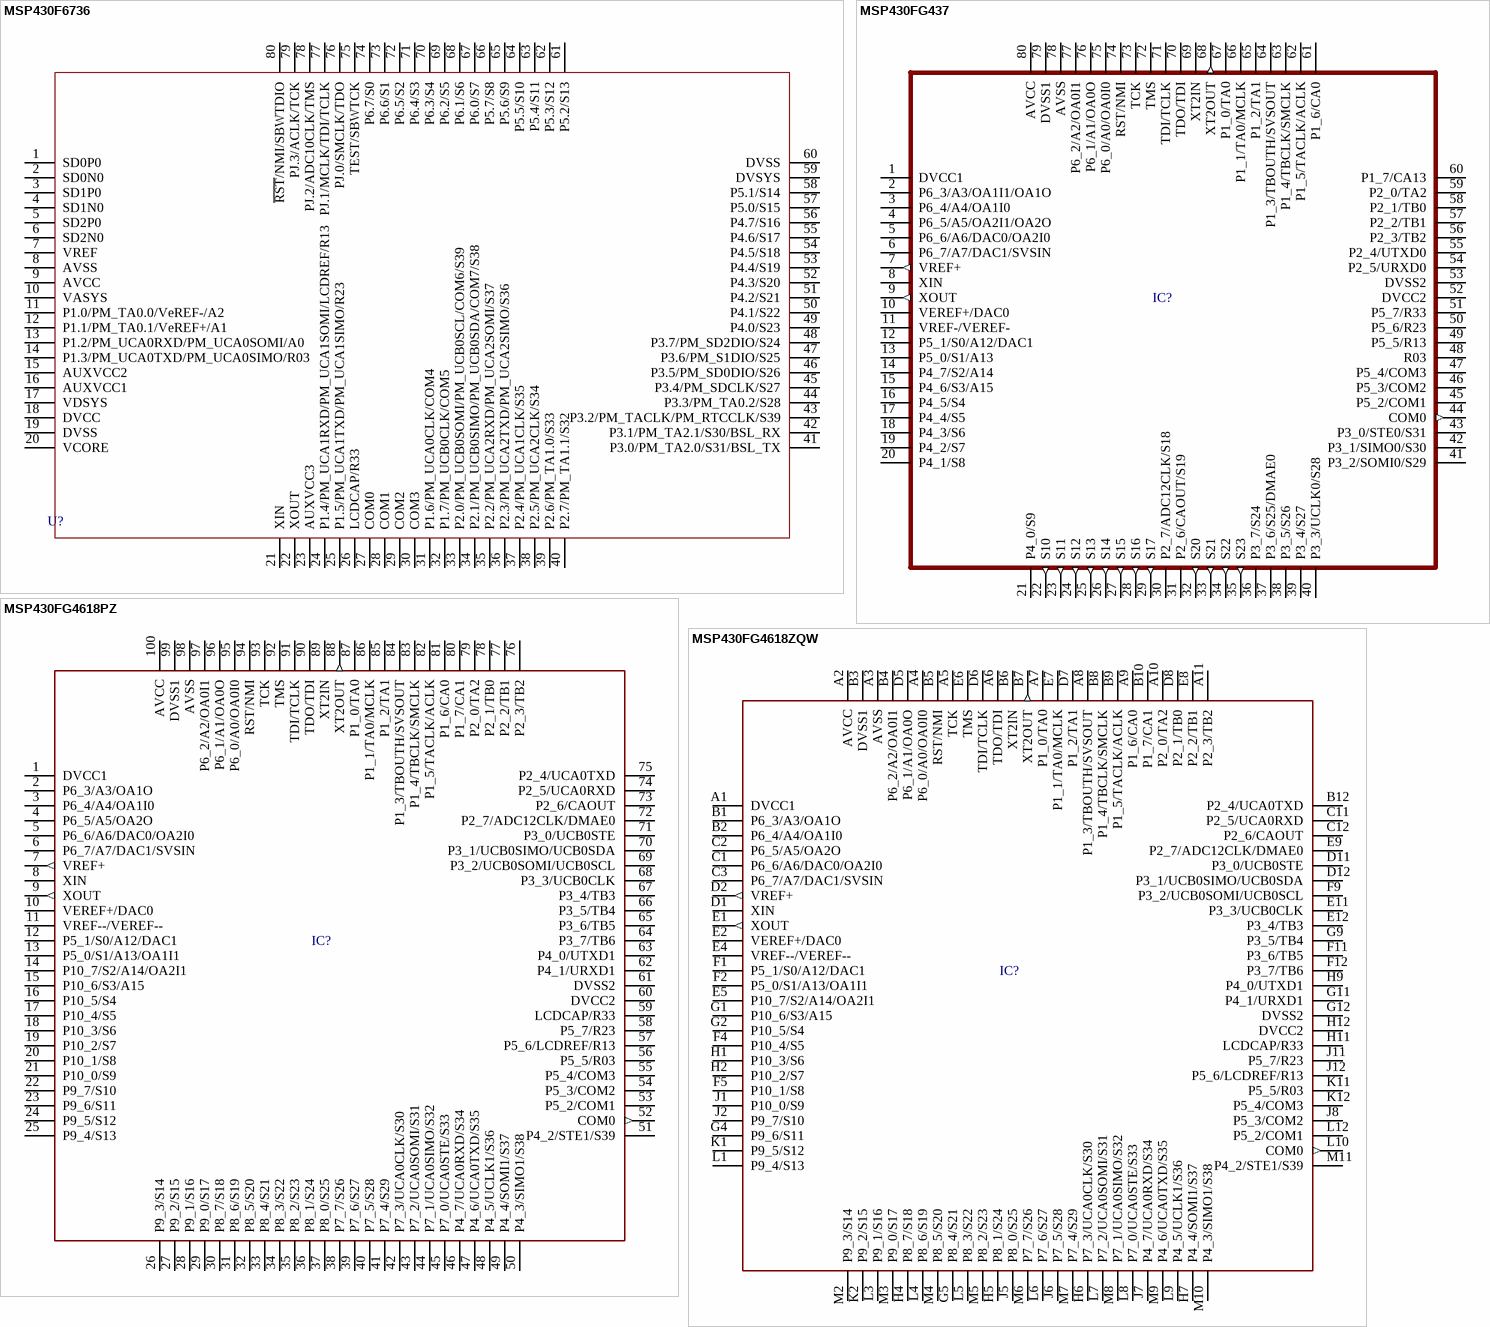
[diagram p5: symbols MSP430F6736 to MSP430FG4618ZQW]

## MSP430F6736
designator U?  (value not drawn)
Part Number: MSP430F6736IPNR; Vendor: TEXAS INSTRUMENTS
footprint PN_S-PQFP-G80
pins: 1 SD0P0 (power), 2 SD0N0, 3 SD1P0, 4 SD1N0, 5 SD2P0, 6 SD2N0, 7 VREF, 8 AVSS, 9 AVCC, 10 VASYS, 11 P1.0/PM_TA0.0/VeREF-/A2, 12 P1.1/PM_TA0.1/VeREF+/A1, 13 P1.2/PM_UCA0RXD/PM_UCA0SOMI/A0, 14 P1.3/PM_UCA0TXD/PM_UCA0SIMO/R03, 15 AUXVCC2, 16 AUXVCC1, 17 VDSYS, 18 DVCC, 19 DVSS, 20 VCORE, 21 XIN, 22 XOUT, 23 AUXVCC3, 24 P1.4/PM_UCA1RXD/PM_UCA1SOMI/LCDREF/R13, 25 P1.5/PM_UCA1TXD/PM_UCA1SIMO/R23, 26 LCDCAP/R33, 27 COM0, 28 COM1, 29 COM2, 30 COM3, 31 P1.6/PM_UCA0CLK/COM4, 32 P1.7/PM_UCB0CLK/COM5, 33 P2.0/PM_UCB0SOMI/PM_UCB0SCL/COM6/S39, 34 P2.1/PM_UCB0SIMO/PM_UCB0SDA/COM7/S38, 35 P2.2/PM_UCA2RXD/PM_UCA2SOMI/S37, 36 P2.3/PM_UCA2TXD/PM_UCA2SIMO/S36, 37 P2.4/PM_UCA1CLK/S35, 38 P2.5/PM_UCA2CLK/S34, 39 P2.6/PM_TA1.0/S33, 40 P2.7/PM_TA1.1/S32, 41 P3.0/PM_TA2.0/S31/BSL_TX, 42 P3.1/PM_TA2.1/S30/BSL_RX, 43 P3.2/PM_TACLK/PM_RTCCLK/S39, 44 P3.3/PM_TA0.2/S28, 45 P3.4/PM_SDCLK/S27, 46 P3.5/PM_SD0DIO/S26, 47 P3.6/PM_S1DIO/S25, 48 P3.7/PM_SD2DIO/S24, 49 P4.0/S23, 50 P4.1/S22, 51 P4.2/S21, 52 P4.3/S20, 53 P4.4/S19, 54 P4.5/S18, 55 P4.6/S17, 56 P4.7/S16, 57 P5.0/S15, 58 P5.1/S14, 59 DVSYS, 60 DVSS, 61 P5.2/S13, 62 P5.3/S12, 63 P5.4/S11, 64 P5.5/S10, 65 P5.6/S9, 66 P5.7/S8, 67 P6.0/S7, 68 P6.1/S6, 69 P6.2/S5, 70 P6.3/S4, 71 P6.4/S3, 72 P6.5/S2, 73 P6.6/S1, 74 P6.7/S0, 75 TEST/SBWTCK, 76 PJ.0/SMCLK/TDO, 77 PJ.1/MCLK/TDI/TCLK, 78 PJ.2/ADC10CLK/TMS, 79 PJ.3/ACLK/TCK, 80 ~{RST}/NMI/SBWTDIO

## MSP430FG437
designator IC?, comment <b>MIXED SIGNAL MICROCONTROLLER</b><p> / Auto generated by <i>make-symbol-device-package-bsdl.ulp Rev. 29</i><br> / Source: http://focus.ti.com/lit/ds/symlink/msp430fg437.pdf  (value not drawn)
Part Number: MSP430FG437IPN; Vendor: TEXAS INSTRUMENTS
footprint PN_S-PQFP-G80
pins: 1 DVCC1 (power), 2 P6_3/A3/OA1I1/OA1O, 3 P6_4/A4/OA1I0, 4 P6_5/A5/OA2I1/OA2O, 5 P6_6/A6/DAC0/OA2I0, 6 P6_7/A7/DAC1/SVSIN, 7 VREF+ (out), 8 XIN, 9 XOUT (out), 10 VEREF+/DAC0, 11 VREF-/VEREF-, 12 P5_1/S0/A12/DAC1, 13 P5_0/S1/A13, 14 P4_7/S2/A14, 15 P4_6/S3/A15, 16 P4_5/S4, 17 P4_4/S5, 18 P4_3/S6, 19 P4_2/S7, 20 P4_1/S8, 21 P4_0/S9, 22 S10 (out), 23 S11 (out), 24 S12 (out), 25 S13 (out), 26 S14 (out), 27 S15 (out), 28 S16 (out), 29 S17 (out), 30 P2_7/ADC12CLK/S18, 31 P2_6/CAOUT/S19, 32 S20 (out), 33 S21 (out), 34 S22 (out), 35 S23 (out), 36 P3_7/S24, 37 P3_6/S25/DMAE0, 38 P3_5/S26, 39 P3_4/S27, 40 P3_3/UCLK0/S28, 41 P3_2/SOMI0/S29, 42 P3_1/SIMO0/S30, 43 P3_0/STE0/S31, 44 COM0 (out), 45 P5_2/COM1, 46 P5_3/COM2, 47 P5_4/COM3, 48 R03, 49 P5_5/R13, 50 P5_6/R23, 51 P5_7/R33, 52 DVCC2 (power), 53 DVSS2 (power), 54 P2_5/URXD0, 55 P2_4/UTXD0, 56 P2_3/TB2, 57 P2_2/TB1, 58 P2_1/TB0, 59 P2_0/TA2, 60 P1_7/CA13, 61 P1_6/CA0, 62 P1_5/TACLK/ACLK, 63 P1_4/TBCLK/SMCLK, 64 P1_3/TBOUTH/SVSOUT, 65 P1_2/TA1, 66 P1_1/TA0/MCLK, 67 P1_0/TA0, 68 XT2OUT (out), 69 XT2IN, 70 TDO/TDI, 71 TDI/TCLK, 72 TMS, 73 TCK, 74 RST/NMI, 75 P6_0/A0/OA0I0, 76 P6_1/A1/OA0O, 77 P6_2/A2/OA0I1, 78 AVSS (power), 79 DVSS1 (power), 80 AVCC (power)